# Altium integrated library Lattice ORCA Series 2.IntLib: 202 symbols (part 20 of 22)
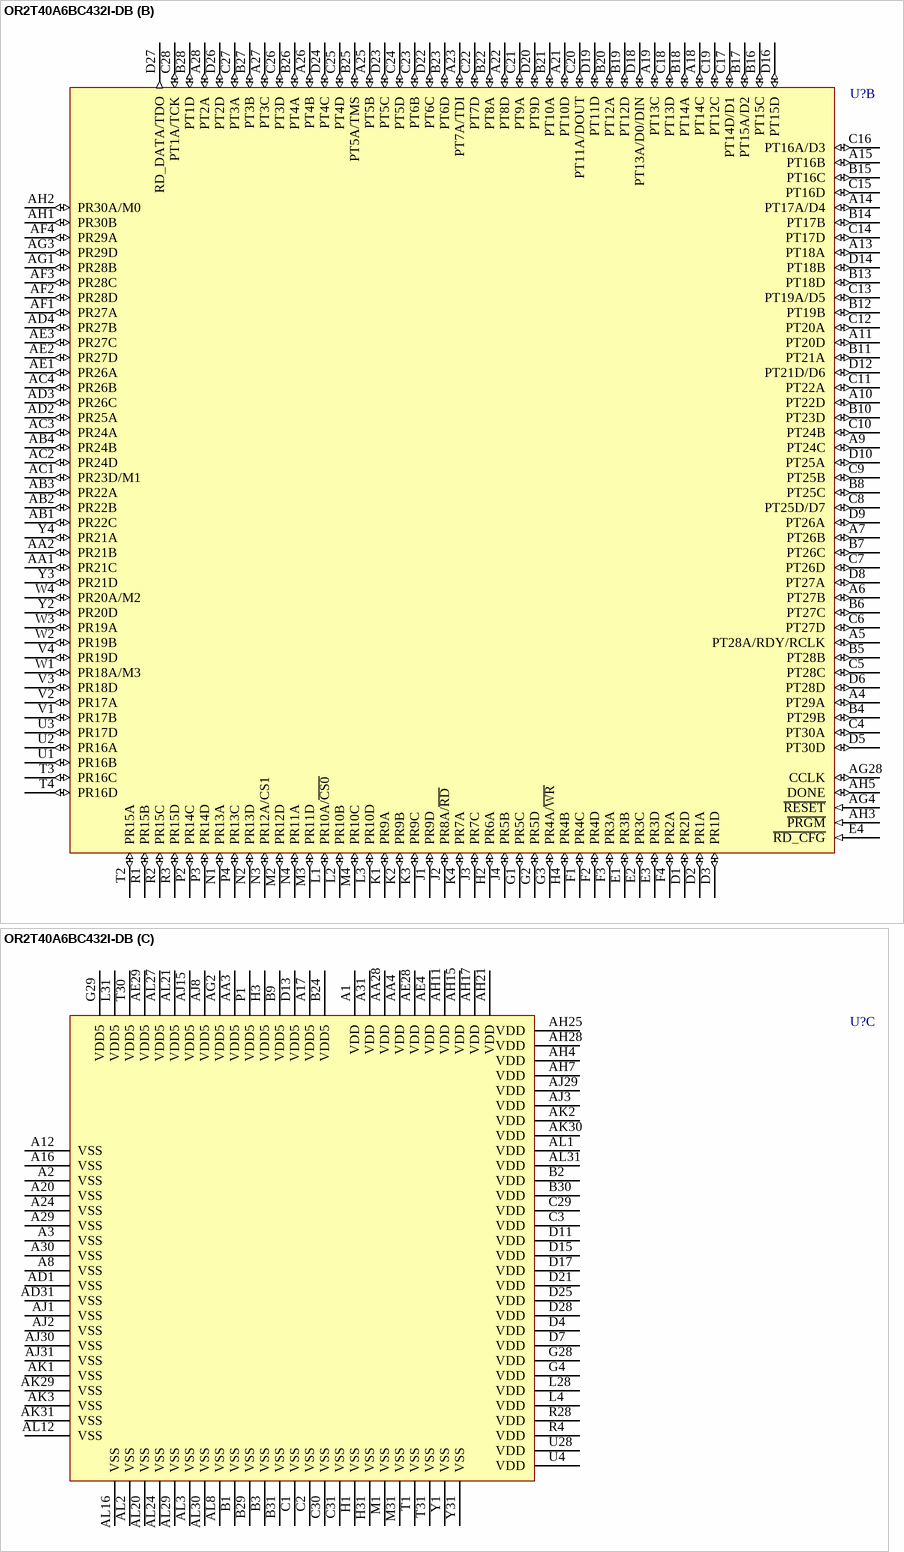
[diagram p211: symbol OR2T40A6BC432I-DB]

## OR2T40A6BC432I-DB
designator U?
ORCA Series 2C FPGA: 3.3 V, Industrial Grade, 480 User I/Os.; Published: 21-May-2003; LatestRevisionDate: 13-Apr-2006; LatestRevisionNote: IPC-7351 Footprint Added.; DatasheetVersion: Jan-2003; PackageVersion: pkg_32, Aug-2005; PackageReference: SBGA432; Publisher: Altium Limited; PackageDescription: 432-Ball Super Ball Grid Array (SBGA432); ComponentLink1Description: Manufacturer Link; ComponentLink1URL: http://www.latticesemi.com/products/fpga/orca/orca2/index.cfm; ComponentLink2Description: Datasheet; ComponentLink2URL: http://www.latticesemi.com/lit/docs/datasheets/fpga/ds99-094fpga.pdf; ComponentLink3Description: Lattice Login; ComponentLink3URL: http://www.latticesemi.com/account/login.cfm
footprint SBGA432 (BGA, 432-Leads, Body 40x40mm, Pitch 1.27mm)
3D model OR2T40A-SBGA432 (432-Ball Super Ball Grid Array (SBGA432))
part A pins: AA29 PL21A (io), AA30 PL21C (io), AA31 PL21D/A12 (io), AB28 PL23C (io), AB29 PL22B/A13 (io), AB30 PL22C (io), AB31 PL22D (io), AC28 PL26C (io), AC29 PL24D (io), AC30 PL23D (io), AC31 PL22A (io), AD28 PL27C (io), AD29 PL25A/A14 (io), AD30 PL25D (io), AE30 PL26A (io), AE31 PL26B (io), AF28 PL29A (io), AF29 PL28D (io), AF30 PL27A (io), AF31 PL27B (io), AG29 PL28A (io), AG30 PL28B (io), AG31 PL28C (io), AH6 PB29A (io), AH8 PB27B (io), AH9 PB26B (io), AH10 PB25B (io), AH12 PB22A (io), AH13 PB20B (io), AH14 PB19A/HDC (io), AH16 PB16A (io), AH18 PB13A (io), AH19 PB11D (io), AH20 PB10A (io), AH22 PB6D (io), AH23 PB5D/A17 (io), AH24 PB4D (io), AH26 PB3A (io), AH27 PB1A/A16 (io), AH29 PL30A/A15 (io), AH30 PL30B (io), AH31 PL30C (io), AJ4 PB30D (io), AJ5 PB28D (io), AJ6 PB28A (io), AJ7 PB27A (io), AJ9 PB25C (io), AJ10 PB24C (io), AJ11 PB22D (io), AJ12 PB20D (io), AJ13 PB19D (io), AJ14 PB18B (io), AJ16 PB15D (io), AJ17 PB15A (io), AJ18 PB14A (io), AJ19 PB12B (io), AJ20 PB11B (io), AJ21 PB9D (io), AJ22 PB8A (io), AJ23 PB6C (io), AJ24 PB6A (io), AJ25 PB5A (io), AJ26 PB4A (io), AJ27 PB3B (io), AJ28 PB1B (io), AK4 PB30C (io), AK5 PB28C (io), AK6 PB27D (io), AK7 PB26D (io), AK8 PB25D (io), AK9 PB25A/~{INIT} (io), AK10 PB24A (io), AK11 PB21D (io), AK12 PB20A (io), AK13 PB19B (io), AK14 PB18A (io), AK15 PB16D (io), AK16 PB16B (io), AK17 PB15B (io), AK18 PB14B (io), AK19 PB12D (io), AK20 PB12A (io), AK21 PB10D (io), AK22 PB8D (io), AK23 PB7A (io), AK24 PB6B (io), AK25 PB5B (io), AK26 PB4B (io), AK27 PB3C (io), AK28 PB2A (io), AL4 PB29D (io), AL5 PB28B (io), AL6 PB27C (io), AL7 PB26C (io), AL9 PB24D (io), AL10 PB23A (io), AL11 PB21A/~{LDC} (io), AL13 PB18D (io), AL14 PB17D (io), AL15 PB16C (io), AL17 PB15C (io), AL18 PB14D (io), AL19 PB13D (io), AL22 PB9A (io), AL23 PB7D (io), AL25 PB5C (io), AL26 PB4C (io), AL28 PB2D (io), D29 PL1A (io), D30 PL2D (io), D31 PL2A (io), E28 PL1D (io), E29 PL3C (io), E30 PL3B (io), E31 PL3A (io), F28 PL3D/A0 (io), F29 PL4D (io), F30 PL4C (io), F31 PL4B (io), G30 PL5C (io), G31 PL5B (io), H28 PL4A (io), H29 PL7D (io), H30 PL7C (io), J28 PL6D (io), J29 PL7B (io), J30 PL9D (io), J31 PL9C (io), K28 PL8D/A1 (io), K29 PL9B (io), K30 PL9A/A2 (io), K31 PL10D (io), L29 PL10C (io), L30 PL10A/A3 (io), M28 PL10B (io), M29 PL11C (io), M30 PL12D (io), N28 PL11A (io), N29 PL12C (io), N30 PL12A/A4 (io), N31 PL13C (io), P28 PL13D/A5 (io), P29 PL13A (io), P30 PL14D (io), P31 PL14A/A6 (io), R29 PL15D (io), R30 PL15C (io), R31 PL15B (io), T28 PL16D (io), T29 PL15A/A7 (io), U29 PL17D/A9 (io), U30 PL16A/A8 (io), U31 PL16B (io), V28 PL18A/A10 (io), V29 PL18D (io), V30 PL17A (io), V31 PL17C (io), W28 PL20D (io), W29 PL19C (io), W30 PL19D (io), W31 PL18C (io), Y28 PL21B (io), Y29 PL20A/A11 (io), Y30 PL19A (io)
part B pins: A4 PT29A (io), A5 PT28A/RDY/RCLK (io), A6 PT27B (io), A7 PT26B (io), A9 PT24C (io), A10 PT22D (io), A11 PT20D (io), A13 PT18A (io), A14 PT17A/D4 (io), A15 PT16B (io), A18 PT14C (io), A19 PT13C (io), A21 PT10D (io), A22 PT8D (io), A23 PT7A/TDI (io), A25 PT5B (io), A26 PT4B (io), A27 PT3C (io), A28 PT2A (io), AA1 PR21C (io), AA2 PR21B (io), AB1 PR22C (io), AB2 PR22B (io), AB3 PR22A (io), AB4 PR24B (io), AC1 PR23D/M1 (io), AC2 PR24D (io), AC3 PR24A (io), AC4 PR26B (io), AD2 PR25A (io), AD3 PR26C (io), AD4 PR27B (io), AE1 PR26A (io), AE2 PR27D (io), AE3 PR27C (io), AF1 PR27A (io), AF2 PR28D (io), AF3 PR28C (io), AF4 PR29A (io), AG1 PR28B (io), AG3 PR29D (io), AG4 ~{RESET} (in), AG28 CCLK (io), AH1 PR30B (io), AH2 PR30A/M0 (io), AH3 ~{PRGM} (in), AH5 DONE (io), B4 PT29B (io), B5 PT28B (io), B6 PT27C (io), B7 PT26C (io), B8 PT25C (io), B10 PT23D (io), B11 PT21A (io), B12 PT19B (io), B13 PT18D (io), B14 PT17B (io), B15 PT16C (io), B16 PT15C (io), B17 PT15A/D2 (io), B18 PT14A (io), B19 PT12D (io), B20 PT12A (io), B21 PT10A (io), B22 PT8A (io), B23 PT6D (io), B25 PT5A/TMS (io), B26 PT4A (io), B27 PT3B (io), B28 PT1D (io), C4 PT30A (io), C5 PT28C (io), C6 PT27D (io), C7 PT26D (io), C8 PT25D/D7 (io), C9 PT25B (io), C10 PT24B (io), C11 PT22A (io), C12 PT20A (io), C13 PT19A/D5 (io), C14 PT17D (io), C15 PT16D (io), C16 PT16A/D3 (io), C17 PT14D/D1 (io), C18 PT13D (io), C19 PT12C (io), C20 PT11A/DOUT (io), C21 PT9A (io), C22 PT7D (io), C23 PT6B (io), C24 PT5D (io), C25 PT4D (io), C26 PT3D (io), C27 PT3A (io), C28 PT1A/TCK (io), D1 PR2D (io), D2 PR1A (io), D3 PR1D (io), D5 PT30D (io), D6 PT28D (io), D8 PT27A (io), D9 PT26A (io), D10 PT25A (io), D12 PT21D/D6 (io), D14 PT18B (io), D16 PT15D (io), D18 PT13A/D0/DIN (io), D19 PT11D (io), D20 PT9D (io), D22 PT6C (io), D23 PT5C (io), D24 PT4C (io), D26 PT2D (io), D27 RD_DATA/TDO (out), E1 PR3B (io), E2 PR3C (io), E3 PR3D (io), E4 ~{RD_CFG} (in), F1 PR4C (io), F2 PR4D (io), F3 PR3A (io), F4 PR2A (io), G1 PR5C (io), G2 PR5D (io), G3 PR4A/~{WR} (io), H2 PR6A (io), H4 PR4B (io), J1 PR9D (io), J2 PR8A/~{RD} (io), J3 PR7C (io), J4 PR5B (io), K1 PR9A (io), K2 PR9B (io), K3 PR9C (io), K4 PR7A (io), L1 PR10A/~{CS0} (io), L2 PR10B (io), L3 PR10D (io), M2 PR12D (io), M3 PR11D (io), M4 PR10C (io), N1 PR13A (io), N2 PR13D (io), N3 PR12A/CS1 (io), N4 PR11A (io), P2 PR14C (io), P3 PR14D (io), P4 PR13C (io), R1 PR15B (io), R2 PR15C (io), R3 PR15D (io), T2 PR15A (io), T3 PR16C (io), T4 PR16D (io), U1 PR16B (io), U2 PR16A (io), U3 PR17D (io), V1 PR17B (io), V2 PR17A (io), V3 PR18D (io), V4 PR19D (io), W1 PR18A/M3 (io), W2 PR19B (io), W3 PR19A (io), W4 PR20A/M2 (io), Y2 PR20D (io), Y3 PR21D (io), Y4 PR21A (io)
part C pins: A1 VDD (power), A2 VSS (power), A3 VSS (power), A8 VSS (power), A12 VSS (power), A16 VSS (power), A17 VDD5 (power), A20 VSS (power), A24 VSS (power), A29 VSS (power), A30 VSS (power), A31 VDD (power), AA3 VDD5 (power), AA4 VDD (power), AA28 VDD (power), AD1 VSS (power), AD31 VSS (power), AE4 VDD (power), AE28 VDD (power), AE29 VDD5 (power), AG2 VDD5 (power), AH4 VDD (power), AH7 VDD (power), AH11 VDD (power), AH15 VDD (power), AH17 VDD (power), AH21 VDD (power), AH25 VDD (power), AH28 VDD (power), AJ1 VSS (power), AJ2 VSS (power), AJ3 VDD (power), AJ8 VDD5 (power), AJ15 VDD5 (power), AJ29 VDD (power), AJ30 VSS (power), AJ31 VSS (power), AK1 VSS (power), AK2 VDD (power), AK3 VSS (power), AK29 VSS (power), AK30 VDD (power), AK31 VSS (power), AL1 VDD (power), AL2 VSS (power), AL3 VSS (power), AL8 VSS (power), AL12 VSS (power), AL16 VSS (power), AL20 VSS (power), AL21 VDD5 (power), AL24 VSS (power), AL27 VDD5 (power), AL29 VSS (power), AL30 VSS (power), AL31 VDD (power), B1 VSS (power), B2 VDD (power), B3 VSS (power), B9 VDD5 (power), B24 VDD5 (power), B29 VSS (power), B30 VDD (power), B31 VSS (power), C1 VSS (power), C2 VSS (power), C3 VDD (power), C29 VDD (power), C30 VSS (power), C31 VSS (power), D4 VDD (power), D7 VDD (power), D11 VDD (power), D13 VDD5 (power), D15 VDD (power), D17 VDD (power), D21 VDD (power), D25 VDD (power), D28 VDD (power), G4 VDD (power), G28 VDD (power), G29 VDD5 (power), H1 VSS (power), H3 VDD5 (power), H31 VSS (power), L4 VDD (power), L28 VDD (power), L31 VDD5 (power), M1 VSS (power), M31 VSS (power), P1 VDD5 (power), R4 VDD (power), R28 VDD (power), T1 VSS (power), T30 VDD5 (power), T31 VSS (power), U4 VDD (power), U28 VDD (power), Y1 VSS (power), Y31 VSS (power)

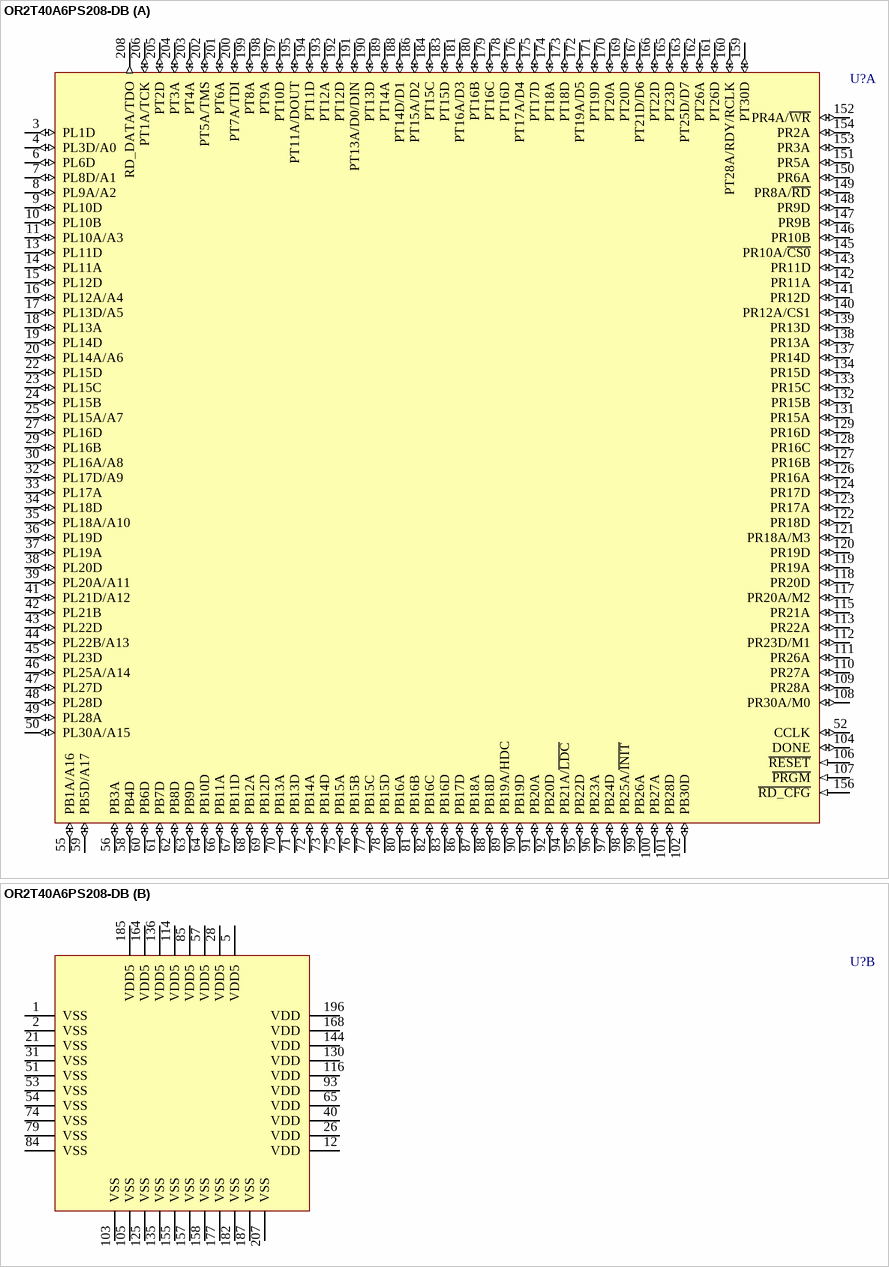
[diagram p165: symbol OR2T40A6PS208-DB]

## OR2T40A6PS208-DB
designator U?
ORCA Series 2C FPGA: 3.3 V, Commercial Grade, 480 User I/Os.; Published: 21-May-2003; LatestRevisionDate: 13-Apr-2006; LatestRevisionNote: IPC-7351 Footprint Added.; DatasheetVersion: Jan-2003; PackageVersion: pkg_32, Aug-2005; PackageReference: PQFP208; Publisher: Altium Limited; PackageDescription: 208-Pin Plastic Quad Flat Pack (PQFP208); Code_JEDEC: MO-143-FAI; ComponentLink1Description: Manufacturer Link; ComponentLink1URL: http://www.latticesemi.com/products/fpga/orca/orca2/index.cfm; ComponentLink2Description: Datasheet; ComponentLink2URL: http://www.latticesemi.com/lit/docs/datasheets/fpga/ds99-094fpga.pdf; ComponentLink3Description: Lattice Login; ComponentLink3URL: http://www.latticesemi.com/account/login.cfm
footprint PQFP208_N (Shrink QFP, 208-Leads, Body 28x28mm, Pitch 0.5mm, IPC Medium Density)
footprint PQFP208_L (Shrink QFP, 208-Leads, Body 28x28mm, Pitch 0.5mm, IPC High Density)
footprint PQFP208_M (Shrink QFP, 208-Leads, Body 28x28mm, Pitch 0.5mm, IPC Low Density)
3D model OR2T40A-PQFP208 (208-Pin Plastic Quad Flat Pack (PQFP208))
part A pins: 3 PL1D (io), 4 PL3D/A0 (io), 6 PL6D (io), 7 PL8D/A1 (io), 8 PL9A/A2 (io), 9 PL10D (io), 10 PL10B (io), 11 PL10A/A3 (io), 13 PL11D (io), 14 PL11A (io), 15 PL12D (io), 16 PL12A/A4 (io), 17 PL13D/A5 (io), 18 PL13A (io), 19 PL14D (io), 20 PL14A/A6 (io), 22 PL15D (io), 23 PL15C (io), 24 PL15B (io), 25 PL15A/A7 (io), 27 PL16D (io), 29 PL16B (io), 30 PL16A/A8 (io), 32 PL17D/A9 (io), 33 PL17A (io), 34 PL18D (io), 35 PL18A/A10 (io), 36 PL19D (io), 37 PL19A (io), 38 PL20D (io), 39 PL20A/A11 (io), 41 PL21D/A12 (io), 42 PL21B (io), 43 PL22D (io), 44 PL22B/A13 (io), 45 PL23D (io), 46 PL25A/A14 (io), 47 PL27D (io), 48 PL28D (io), 49 PL28A (io), 50 PL30A/A15 (io), 52 CCLK (io), 55 PB1A/A16 (io), 56 PB3A (io), 58 PB4D (io), 59 PB5D/A17 (io), 60 PB6D (io), 61 PB7D (io), 62 PB8D (io), 63 PB9D (io), 64 PB10D (io), 66 PB11A (io), 67 PB11D (io), 68 PB12A (io), 69 PB12D (io), 70 PB13A (io), 71 PB13D (io), 72 PB14A (io), 73 PB14D (io), 75 PB15A (io), 76 PB15B (io), 77 PB15C (io), 78 PB15D (io), 80 PB16A (io), 81 PB16B (io), 82 PB16C (io), 83 PB16D (io), 86 PB17D (io), 87 PB18A (io), 88 PB18D (io), 89 PB19A/HDC (io), 90 PB19D (io), 91 PB20A (io), 92 PB20D (io), 94 PB21A/~{LDC} (io), 95 PB22D (io), 96 PB23A (io), 97 PB24D (io), 98 PB25A/~{INIT} (io), 99 PB26A (io), 100 PB27A (io), 101 PB28D (io), 102 PB30D (io), 104 DONE (io), 106 ~{RESET} (in), 107 ~{PRGM} (in), 108 PR30A/M0 (io), 109 PR28A (io), 110 PR27A (io), 111 PR26A (io), 112 PR23D/M1 (io), 113 PR22A (io), 115 PR21A (io), 117 PR20A/M2 (io), 118 PR20D (io), 119 PR19A (io), 120 PR19D (io), 121 PR18A/M3 (io), 122 PR18D (io), 123 PR17A (io), 124 PR17D (io), 126 PR16A (io), 127 PR16B (io), 128 PR16C (io), 129 PR16D (io), 131 PR15A (io), 132 PR15B (io), 133 PR15C (io), 134 PR15D (io), 137 PR14D (io), 138 PR13A (io), 139 PR13D (io), 140 PR12A/CS1 (io), 141 PR12D (io), 142 PR11A (io), 143 PR11D (io), 145 PR10A/~{CS0} (io), 146 PR10B (io), 147 PR9B (io), 148 PR9D (io), 149 PR8A/~{RD} (io), 150 PR6A (io), 151 PR5A (io), 152 PR4A/~{WR} (io), 153 PR3A (io), 154 PR2A (io), 156 ~{RD_CFG} (in), 159 PT30D (io), 160 PT28A/RDY/RCLK (io), 161 PT26D (io), 162 PT26A (io), 163 PT25D/D7 (io), 165 PT23D (io), 166 PT22D (io), 167 PT21D/D6 (io), 169 PT20D (io), 170 PT20A (io), 171 PT19D (io), 172 PT19A/D5 (io), 173 PT18D (io), 174 PT18A (io), 175 PT17D (io), 176 PT17A/D4 (io), 178 PT16D (io), 179 PT16C (io), 180 PT16B (io), 181 PT16A/D3 (io), 183 PT15D (io), 184 PT15C (io), 186 PT15A/D2 (io), 188 PT14D/D1 (io), 189 PT14A (io), 190 PT13D (io), 191 PT13A/D0/DIN (io), 192 PT12D (io), 193 PT12A (io), 194 PT11D (io), 195 PT11A/DOUT (io), 197 PT10D (io), 198 PT9A (io), 199 PT8A (io), 200 PT7A/TDI (io), 201 PT6A (io), 202 PT5A/TMS (io), 203 PT4A (io), 204 PT3A (io), 205 PT2D (io), 206 PT1A/TCK (io), 208 RD_DATA/TDO (out)
part B pins: 1 VSS (power), 2 VSS (power), 5 VDD5 (power), 12 VDD (power), 21 VSS (power), 26 VDD (power), 28 VDD5 (power), 31 VSS (power), 40 VDD (power), 51 VSS (power), 53 VSS (power), 54 VSS (power), 57 VDD5 (power), 65 VDD (power), 74 VSS (power), 79 VSS (power), 84 VSS (power), 85 VDD5 (power), 93 VDD (power), 103 VSS (power), 105 VSS (power), 114 VDD5 (power), 116 VDD (power), 125 VSS (power), 130 VDD (power), 135 VSS (power), 136 VDD5 (power), 144 VDD (power), 155 VSS (power), 157 VSS (power), 158 VSS (power), 164 VDD5 (power), 168 VDD (power), 177 VSS (power), 182 VSS (power), 185 VDD5 (power), 187 VSS (power), 196 VDD (power), 207 VSS (power)

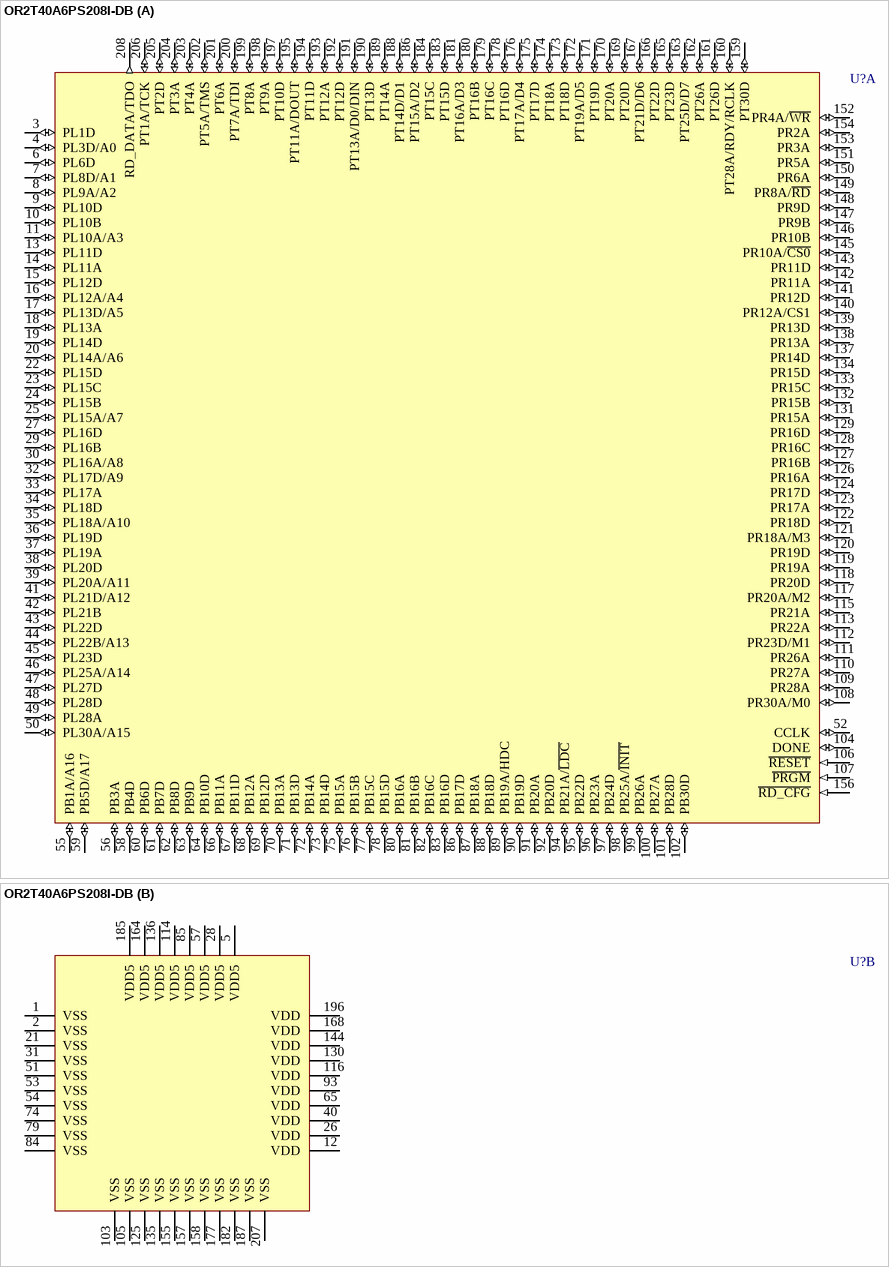
[diagram p166: symbol OR2T40A6PS208I-DB]

## OR2T40A6PS208I-DB
designator U?
ORCA Series 2C FPGA: 3.3 V, Industrial Grade, 480 User I/Os.; Published: 21-May-2003; LatestRevisionDate: 13-Apr-2006; LatestRevisionNote: IPC-7351 Footprint Added.; DatasheetVersion: Jan-2003; PackageVersion: pkg_32, Aug-2005; PackageReference: PQFP208; Publisher: Altium Limited; PackageDescription: 208-Pin Plastic Quad Flat Pack (PQFP208); Code_JEDEC: MO-143-FAI; ComponentLink1Description: Manufacturer Link; ComponentLink1URL: http://www.latticesemi.com/products/fpga/orca/orca2/index.cfm; ComponentLink2Description: Datasheet; ComponentLink2URL: http://www.latticesemi.com/lit/docs/datasheets/fpga/ds99-094fpga.pdf; ComponentLink3Description: Lattice Login; ComponentLink3URL: http://www.latticesemi.com/account/login.cfm
footprint PQFP208_N (Shrink QFP, 208-Leads, Body 28x28mm, Pitch 0.5mm, IPC Medium Density)
footprint PQFP208_L (Shrink QFP, 208-Leads, Body 28x28mm, Pitch 0.5mm, IPC High Density)
footprint PQFP208_M (Shrink QFP, 208-Leads, Body 28x28mm, Pitch 0.5mm, IPC Low Density)
3D model OR2T40A-PQFP208 (208-Pin Plastic Quad Flat Pack (PQFP208))
part A pins: 3 PL1D (io), 4 PL3D/A0 (io), 6 PL6D (io), 7 PL8D/A1 (io), 8 PL9A/A2 (io), 9 PL10D (io), 10 PL10B (io), 11 PL10A/A3 (io), 13 PL11D (io), 14 PL11A (io), 15 PL12D (io), 16 PL12A/A4 (io), 17 PL13D/A5 (io), 18 PL13A (io), 19 PL14D (io), 20 PL14A/A6 (io), 22 PL15D (io), 23 PL15C (io), 24 PL15B (io), 25 PL15A/A7 (io), 27 PL16D (io), 29 PL16B (io), 30 PL16A/A8 (io), 32 PL17D/A9 (io), 33 PL17A (io), 34 PL18D (io), 35 PL18A/A10 (io), 36 PL19D (io), 37 PL19A (io), 38 PL20D (io), 39 PL20A/A11 (io), 41 PL21D/A12 (io), 42 PL21B (io), 43 PL22D (io), 44 PL22B/A13 (io), 45 PL23D (io), 46 PL25A/A14 (io), 47 PL27D (io), 48 PL28D (io), 49 PL28A (io), 50 PL30A/A15 (io), 52 CCLK (io), 55 PB1A/A16 (io), 56 PB3A (io), 58 PB4D (io), 59 PB5D/A17 (io), 60 PB6D (io), 61 PB7D (io), 62 PB8D (io), 63 PB9D (io), 64 PB10D (io), 66 PB11A (io), 67 PB11D (io), 68 PB12A (io), 69 PB12D (io), 70 PB13A (io), 71 PB13D (io), 72 PB14A (io), 73 PB14D (io), 75 PB15A (io), 76 PB15B (io), 77 PB15C (io), 78 PB15D (io), 80 PB16A (io), 81 PB16B (io), 82 PB16C (io), 83 PB16D (io), 86 PB17D (io), 87 PB18A (io), 88 PB18D (io), 89 PB19A/HDC (io), 90 PB19D (io), 91 PB20A (io), 92 PB20D (io), 94 PB21A/~{LDC} (io), 95 PB22D (io), 96 PB23A (io), 97 PB24D (io), 98 PB25A/~{INIT} (io), 99 PB26A (io), 100 PB27A (io), 101 PB28D (io), 102 PB30D (io), 104 DONE (io), 106 ~{RESET} (in), 107 ~{PRGM} (in), 108 PR30A/M0 (io), 109 PR28A (io), 110 PR27A (io), 111 PR26A (io), 112 PR23D/M1 (io), 113 PR22A (io), 115 PR21A (io), 117 PR20A/M2 (io), 118 PR20D (io), 119 PR19A (io), 120 PR19D (io), 121 PR18A/M3 (io), 122 PR18D (io), 123 PR17A (io), 124 PR17D (io), 126 PR16A (io), 127 PR16B (io), 128 PR16C (io), 129 PR16D (io), 131 PR15A (io), 132 PR15B (io), 133 PR15C (io), 134 PR15D (io), 137 PR14D (io), 138 PR13A (io), 139 PR13D (io), 140 PR12A/CS1 (io), 141 PR12D (io), 142 PR11A (io), 143 PR11D (io), 145 PR10A/~{CS0} (io), 146 PR10B (io), 147 PR9B (io), 148 PR9D (io), 149 PR8A/~{RD} (io), 150 PR6A (io), 151 PR5A (io), 152 PR4A/~{WR} (io), 153 PR3A (io), 154 PR2A (io), 156 ~{RD_CFG} (in), 159 PT30D (io), 160 PT28A/RDY/RCLK (io), 161 PT26D (io), 162 PT26A (io), 163 PT25D/D7 (io), 165 PT23D (io), 166 PT22D (io), 167 PT21D/D6 (io), 169 PT20D (io), 170 PT20A (io), 171 PT19D (io), 172 PT19A/D5 (io), 173 PT18D (io), 174 PT18A (io), 175 PT17D (io), 176 PT17A/D4 (io), 178 PT16D (io), 179 PT16C (io), 180 PT16B (io), 181 PT16A/D3 (io), 183 PT15D (io), 184 PT15C (io), 186 PT15A/D2 (io), 188 PT14D/D1 (io), 189 PT14A (io), 190 PT13D (io), 191 PT13A/D0/DIN (io), 192 PT12D (io), 193 PT12A (io), 194 PT11D (io), 195 PT11A/DOUT (io), 197 PT10D (io), 198 PT9A (io), 199 PT8A (io), 200 PT7A/TDI (io), 201 PT6A (io), 202 PT5A/TMS (io), 203 PT4A (io), 204 PT3A (io), 205 PT2D (io), 206 PT1A/TCK (io), 208 RD_DATA/TDO (out)
part B pins: 1 VSS (power), 2 VSS (power), 5 VDD5 (power), 12 VDD (power), 21 VSS (power), 26 VDD (power), 28 VDD5 (power), 31 VSS (power), 40 VDD (power), 51 VSS (power), 53 VSS (power), 54 VSS (power), 57 VDD5 (power), 65 VDD (power), 74 VSS (power), 79 VSS (power), 84 VSS (power), 85 VDD5 (power), 93 VDD (power), 103 VSS (power), 105 VSS (power), 114 VDD5 (power), 116 VDD (power), 125 VSS (power), 130 VDD (power), 135 VSS (power), 136 VDD5 (power), 144 VDD (power), 155 VSS (power), 157 VSS (power), 158 VSS (power), 164 VDD5 (power), 168 VDD (power), 177 VSS (power), 182 VSS (power), 185 VDD5 (power), 187 VSS (power), 196 VDD (power), 207 VSS (power)

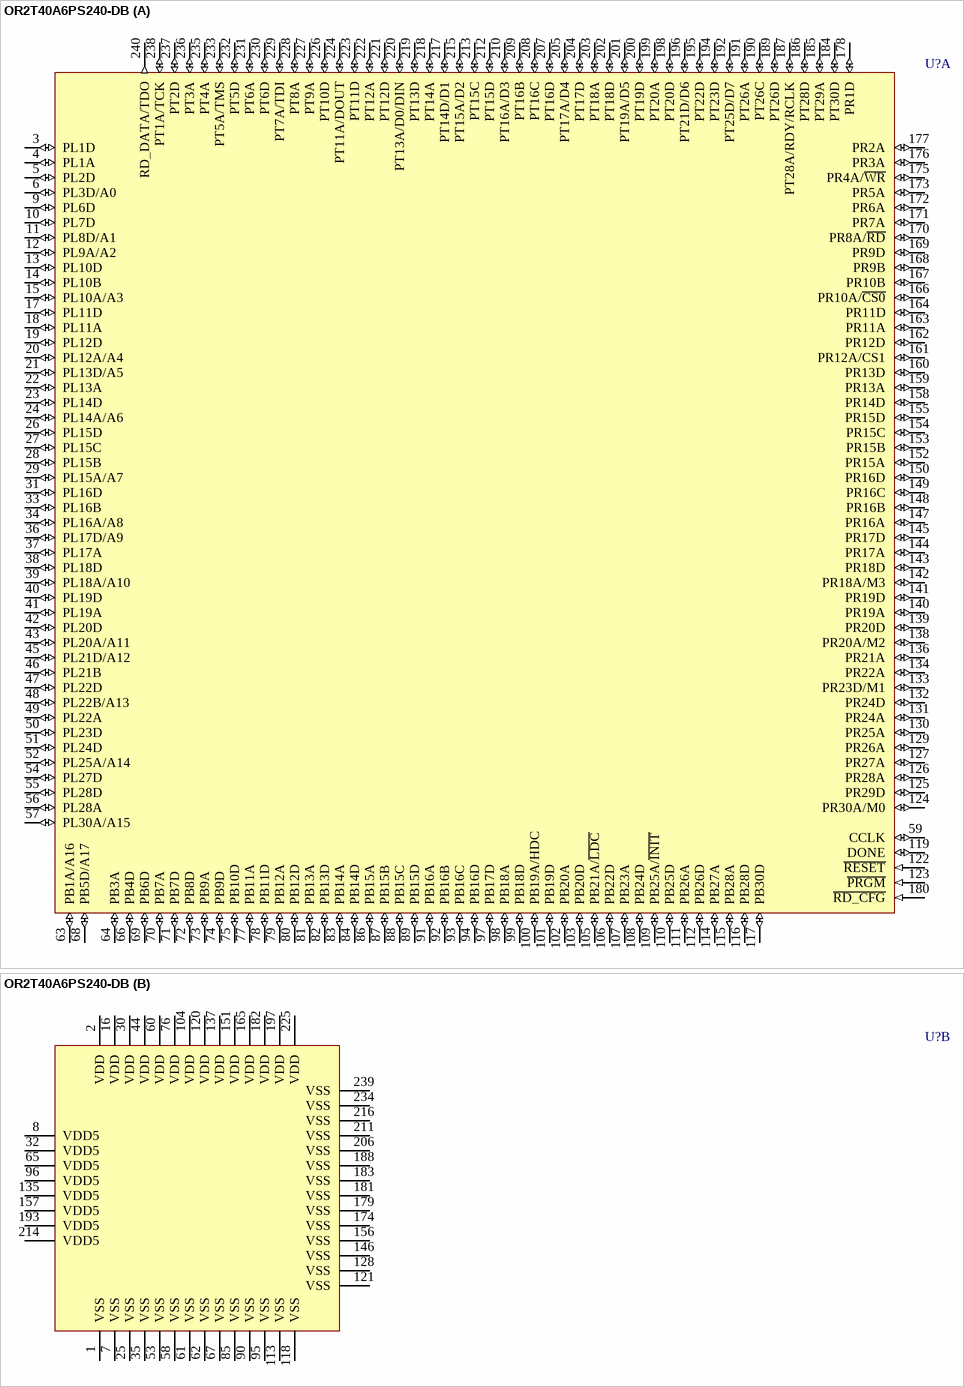
[diagram p167: symbol OR2T40A6PS240-DB]

## OR2T40A6PS240-DB
designator U?
ORCA Series 2C FPGA: 3.3 V, Commercial Grade, 480 User I/Os.; Published: 21-May-2003; LatestRevisionDate: 13-Apr-2006; LatestRevisionNote: IPC-7351 Footprint Added.; DatasheetVersion: Jan-2003; PackageVersion: pkg_32, Aug-2005; PackageReference: PQFP240; Publisher: Altium Limited; PackageDescription: 240-Pin Shrink Quad Flat Pack 0.5 mm Pitch; ComponentLink1Description: Manufacturer Link; ComponentLink1URL: http://www.latticesemi.com/products/fpga/orca/orca2/index.cfm; ComponentLink2Description: Datasheet; ComponentLink2URL: http://www.latticesemi.com/lit/docs/datasheets/fpga/ds99-094fpga.pdf; ComponentLink3Description: Lattice Login; ComponentLink3URL: http://www.latticesemi.com/account/login.cfm
footprint PQFP240_N (Shrink QFP, 240-Leads, Body 32x32mm, Pitch 0.5mm, IPC Medium Density)
footprint PQFP240_L (Shrink QFP, 240-Leads, Body 32x32mm, Pitch 0.5mm, IPC High Density)
footprint PQFP240_M (Shrink QFP, 240-Leads, Body 32x32mm, Pitch 0.5mm, IPC Low Density)
3D model OR2T40A-PQFP240 (240-Pin Shrink Quad Flat Pack 0.5 mm Pitch)
part A pins: 3 PL1D (io), 4 PL1A (io), 5 PL2D (io), 6 PL3D/A0 (io), 9 PL6D (io), 10 PL7D (io), 11 PL8D/A1 (io), 12 PL9A/A2 (io), 13 PL10D (io), 14 PL10B (io), 15 PL10A/A3 (io), 17 PL11D (io), 18 PL11A (io), 19 PL12D (io), 20 PL12A/A4 (io), 21 PL13D/A5 (io), 22 PL13A (io), 23 PL14D (io), 24 PL14A/A6 (io), 26 PL15D (io), 27 PL15C (io), 28 PL15B (io), 29 PL15A/A7 (io), 31 PL16D (io), 33 PL16B (io), 34 PL16A/A8 (io), 36 PL17D/A9 (io), 37 PL17A (io), 38 PL18D (io), 39 PL18A/A10 (io), 40 PL19D (io), 41 PL19A (io), 42 PL20D (io), 43 PL20A/A11 (io), 45 PL21D/A12 (io), 46 PL21B (io), 47 PL22D (io), 48 PL22B/A13 (io), 49 PL22A (io), 50 PL23D (io), 51 PL24D (io), 52 PL25A/A14 (io), 54 PL27D (io), 55 PL28D (io), 56 PL28A (io), 57 PL30A/A15 (io), 59 CCLK (io), 63 PB1A/A16 (io), 64 PB3A (io), 66 PB4D (io), 68 PB5D/A17 (io), 69 PB6D (io), 70 PB7A (io), 71 PB7D (io), 72 PB8D (io), 73 PB9A (io), 74 PB9D (io), 75 PB10D (io), 77 PB11A (io), 78 PB11D (io), 79 PB12A (io), 80 PB12D (io), 81 PB13A (io), 82 PB13D (io), 83 PB14A (io), 84 PB14D (io), 86 PB15A (io), 87 PB15B (io), 88 PB15C (io), 89 PB15D (io), 91 PB16A (io), 92 PB16B (io), 93 PB16C (io), 94 PB16D (io), 97 PB17D (io), 98 PB18A (io), 99 PB18D (io), 100 PB19A/HDC (io), 101 PB19D (io), 102 PB20A (io), 103 PB20D (io), 105 PB21A/~{LDC} (io), 106 PB22D (io), 107 PB23A (io), 108 PB24D (io), 109 PB25A/~{INIT} (io), 110 PB25D (io), 111 PB26A (io), 112 PB26D (io), 114 PB27A (io), 115 PB28A (io), 116 PB28D (io), 117 PB30D (io), 119 DONE (io), 122 ~{RESET} (in), 123 ~{PRGM} (in), 124 PR30A/M0 (io), 125 PR29D (io), 126 PR28A (io), 127 PR27A (io), 129 PR26A (io), 130 PR25A (io), 131 PR24A (io), 132 PR24D (io), 133 PR23D/M1 (io), 134 PR22A (io), 136 PR21A (io), 138 PR20A/M2 (io), 139 PR20D (io), 140 PR19A (io), 141 PR19D (io), 142 PR18A/M3 (io), 143 PR18D (io), 144 PR17A (io), 145 PR17D (io), 147 PR16A (io), 148 PR16B (io), 149 PR16C (io), 150 PR16D (io), 152 PR15A (io), 153 PR15B (io), 154 PR15C (io), 155 PR15D (io), 158 PR14D (io), 159 PR13A (io), 160 PR13D (io), 161 PR12A/CS1 (io), 162 PR12D (io), 163 PR11A (io), 164 PR11D (io), 166 PR10A/~{CS0} (io), 167 PR10B (io), 168 PR9B (io), 169 PR9D (io), 170 PR8A/~{RD} (io), 171 PR7A (io), 172 PR6A (io), 173 PR5A (io), 175 PR4A/~{WR} (io), 176 PR3A (io), 177 PR2A (io), 178 PR1D (io), 180 ~{RD_CFG} (in), 184 PT30D (io), 185 PT29A (io), 186 PT28D (io), 187 PT28A/RDY/RCLK (io), 189 PT26D (io), 190 PT26C (io), 191 PT26A (io), 192 PT25D/D7 (io), 194 PT23D (io), 195 PT22D (io), 196 PT21D/D6 (io), 198 PT20D (io), 199 PT20A (io), 200 PT19D (io), 201 PT19A/D5 (io), 202 PT18D (io), 203 PT18A (io), 204 PT17D (io), 205 PT17A/D4 (io), 207 PT16D (io), 208 PT16C (io), 209 PT16B (io), 210 PT16A/D3 (io), 212 PT15D (io), 213 PT15C (io), 215 PT15A/D2 (io), 217 PT14D/D1 (io), 218 PT14A (io), 219 PT13D (io), 220 PT13A/D0/DIN (io), 221 PT12D (io), 222 PT12A (io), 223 PT11D (io), 224 PT11A/DOUT (io), 226 PT10D (io), 227 PT9A (io), 228 PT8A (io), 229 PT7A/TDI (io), 230 PT6D (io), 231 PT6A (io), 232 PT5D (io), 233 PT5A/TMS (io), 235 PT4A (io), 236 PT3A (io), 237 PT2D (io), 238 PT1A/TCK (io), 240 RD_DATA/TDO (out)
part B pins: 1 VSS (power), 2 VDD (power), 7 VSS (power), 8 VDD5 (power), 16 VDD (power), 25 VSS (power), 30 VDD (power), 32 VDD5 (power), 35 VSS (power), 44 VDD (power), 53 VSS (power), 58 VSS (power), 60 VDD (power), 61 VSS (power), 62 VSS (power), 65 VDD5 (power), 67 VSS (power), 76 VDD (power), 85 VSS (power), 90 VSS (power), 95 VSS (power), 96 VDD5 (power), 104 VDD (power), 113 VSS (power), 118 VSS (power), 120 VDD (power), 121 VSS (power), 128 VSS (power), 135 VDD5 (power), 137 VDD (power), 146 VSS (power), 151 VDD (power), 156 VSS (power), 157 VDD5 (power), 165 VDD (power), 174 VSS (power), 179 VSS (power), 181 VSS (power), 182 VDD (power), 183 VSS (power), 188 VSS (power), 193 VDD5 (power), 197 VDD (power), 206 VSS (power), 211 VSS (power), 214 VDD5 (power), 216 VSS (power), 225 VDD (power), 234 VSS (power), 239 VSS (power)

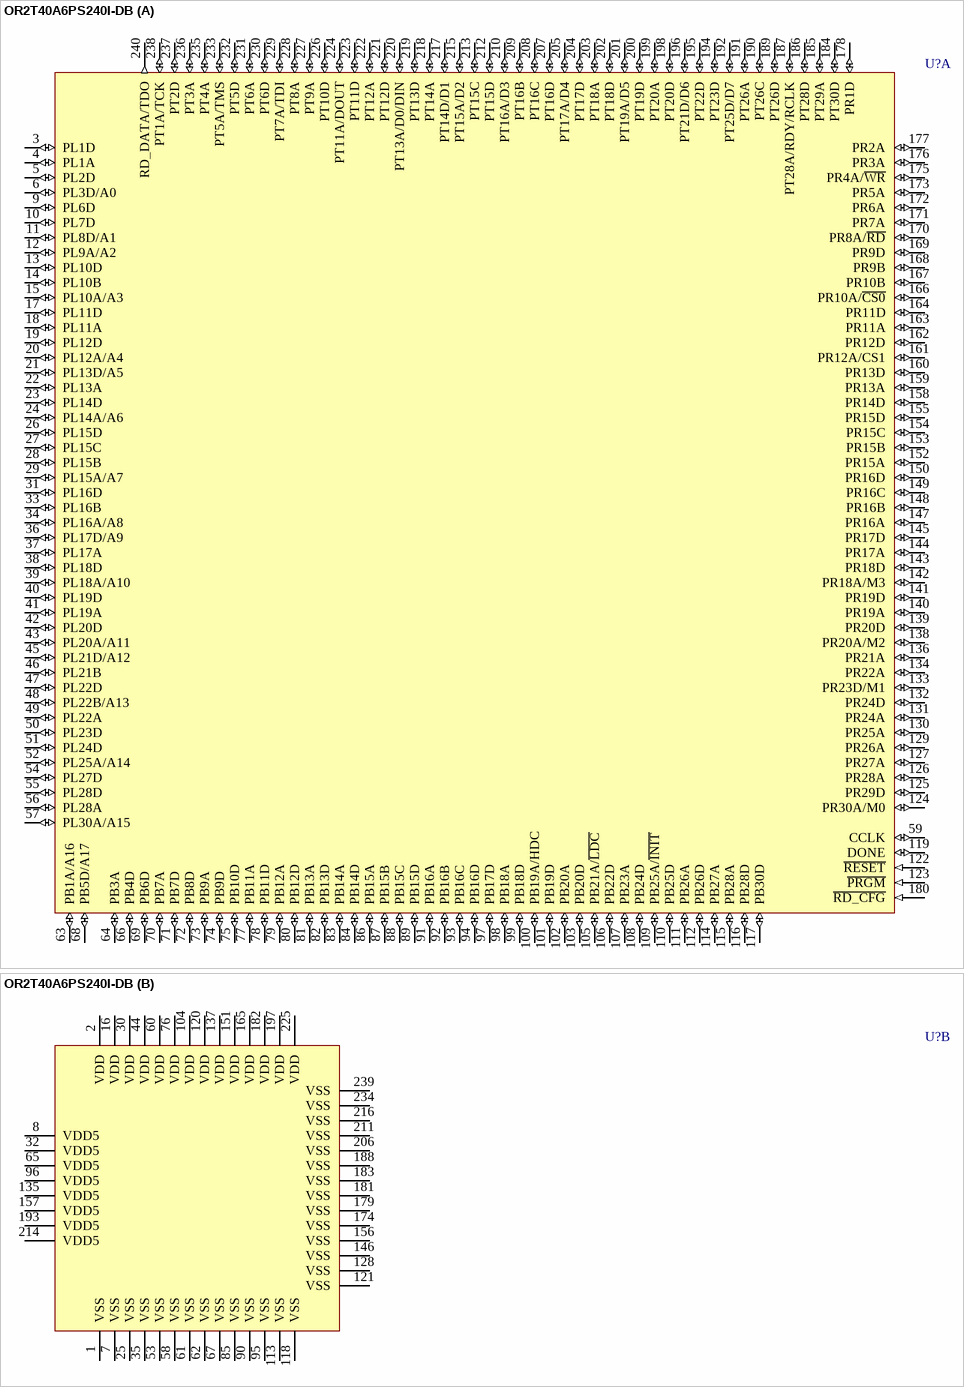
[diagram p168: symbol OR2T40A6PS240I-DB]

## OR2T40A6PS240I-DB
designator U?
ORCA Series 2C FPGA: 3.3 V, Industrial Grade, 480 User I/Os.; Published: 21-May-2003; LatestRevisionDate: 13-Apr-2006; LatestRevisionNote: IPC-7351 Footprint Added.; DatasheetVersion: Jan-2003; PackageVersion: pkg_32, Aug-2005; PackageReference: PQFP240; Publisher: Altium Limited; PackageDescription: 240-Pin Shrink Quad Flat Pack 0.5 mm Pitch; ComponentLink1Description: Manufacturer Link; ComponentLink1URL: http://www.latticesemi.com/products/fpga/orca/orca2/index.cfm; ComponentLink2Description: Datasheet; ComponentLink2URL: http://www.latticesemi.com/lit/docs/datasheets/fpga/ds99-094fpga.pdf; ComponentLink3Description: Lattice Login; ComponentLink3URL: http://www.latticesemi.com/account/login.cfm
footprint PQFP240_N (Shrink QFP, 240-Leads, Body 32x32mm, Pitch 0.5mm, IPC Medium Density)
footprint PQFP240_L (Shrink QFP, 240-Leads, Body 32x32mm, Pitch 0.5mm, IPC High Density)
footprint PQFP240_M (Shrink QFP, 240-Leads, Body 32x32mm, Pitch 0.5mm, IPC Low Density)
3D model OR2T40A-PQFP240 (240-Pin Shrink Quad Flat Pack 0.5 mm Pitch)
part A pins: 3 PL1D (io), 4 PL1A (io), 5 PL2D (io), 6 PL3D/A0 (io), 9 PL6D (io), 10 PL7D (io), 11 PL8D/A1 (io), 12 PL9A/A2 (io), 13 PL10D (io), 14 PL10B (io), 15 PL10A/A3 (io), 17 PL11D (io), 18 PL11A (io), 19 PL12D (io), 20 PL12A/A4 (io), 21 PL13D/A5 (io), 22 PL13A (io), 23 PL14D (io), 24 PL14A/A6 (io), 26 PL15D (io), 27 PL15C (io), 28 PL15B (io), 29 PL15A/A7 (io), 31 PL16D (io), 33 PL16B (io), 34 PL16A/A8 (io), 36 PL17D/A9 (io), 37 PL17A (io), 38 PL18D (io), 39 PL18A/A10 (io), 40 PL19D (io), 41 PL19A (io), 42 PL20D (io), 43 PL20A/A11 (io), 45 PL21D/A12 (io), 46 PL21B (io), 47 PL22D (io), 48 PL22B/A13 (io), 49 PL22A (io), 50 PL23D (io), 51 PL24D (io), 52 PL25A/A14 (io), 54 PL27D (io), 55 PL28D (io), 56 PL28A (io), 57 PL30A/A15 (io), 59 CCLK (io), 63 PB1A/A16 (io), 64 PB3A (io), 66 PB4D (io), 68 PB5D/A17 (io), 69 PB6D (io), 70 PB7A (io), 71 PB7D (io), 72 PB8D (io), 73 PB9A (io), 74 PB9D (io), 75 PB10D (io), 77 PB11A (io), 78 PB11D (io), 79 PB12A (io), 80 PB12D (io), 81 PB13A (io), 82 PB13D (io), 83 PB14A (io), 84 PB14D (io), 86 PB15A (io), 87 PB15B (io), 88 PB15C (io), 89 PB15D (io), 91 PB16A (io), 92 PB16B (io), 93 PB16C (io), 94 PB16D (io), 97 PB17D (io), 98 PB18A (io), 99 PB18D (io), 100 PB19A/HDC (io), 101 PB19D (io), 102 PB20A (io), 103 PB20D (io), 105 PB21A/~{LDC} (io), 106 PB22D (io), 107 PB23A (io), 108 PB24D (io), 109 PB25A/~{INIT} (io), 110 PB25D (io), 111 PB26A (io), 112 PB26D (io), 114 PB27A (io), 115 PB28A (io), 116 PB28D (io), 117 PB30D (io), 119 DONE (io), 122 ~{RESET} (in), 123 ~{PRGM} (in), 124 PR30A/M0 (io), 125 PR29D (io), 126 PR28A (io), 127 PR27A (io), 129 PR26A (io), 130 PR25A (io), 131 PR24A (io), 132 PR24D (io), 133 PR23D/M1 (io), 134 PR22A (io), 136 PR21A (io), 138 PR20A/M2 (io), 139 PR20D (io), 140 PR19A (io), 141 PR19D (io), 142 PR18A/M3 (io), 143 PR18D (io), 144 PR17A (io), 145 PR17D (io), 147 PR16A (io), 148 PR16B (io), 149 PR16C (io), 150 PR16D (io), 152 PR15A (io), 153 PR15B (io), 154 PR15C (io), 155 PR15D (io), 158 PR14D (io), 159 PR13A (io), 160 PR13D (io), 161 PR12A/CS1 (io), 162 PR12D (io), 163 PR11A (io), 164 PR11D (io), 166 PR10A/~{CS0} (io), 167 PR10B (io), 168 PR9B (io), 169 PR9D (io), 170 PR8A/~{RD} (io), 171 PR7A (io), 172 PR6A (io), 173 PR5A (io), 175 PR4A/~{WR} (io), 176 PR3A (io), 177 PR2A (io), 178 PR1D (io), 180 ~{RD_CFG} (in), 184 PT30D (io), 185 PT29A (io), 186 PT28D (io), 187 PT28A/RDY/RCLK (io), 189 PT26D (io), 190 PT26C (io), 191 PT26A (io), 192 PT25D/D7 (io), 194 PT23D (io), 195 PT22D (io), 196 PT21D/D6 (io), 198 PT20D (io), 199 PT20A (io), 200 PT19D (io), 201 PT19A/D5 (io), 202 PT18D (io), 203 PT18A (io), 204 PT17D (io), 205 PT17A/D4 (io), 207 PT16D (io), 208 PT16C (io), 209 PT16B (io), 210 PT16A/D3 (io), 212 PT15D (io), 213 PT15C (io), 215 PT15A/D2 (io), 217 PT14D/D1 (io), 218 PT14A (io), 219 PT13D (io), 220 PT13A/D0/DIN (io), 221 PT12D (io), 222 PT12A (io), 223 PT11D (io), 224 PT11A/DOUT (io), 226 PT10D (io), 227 PT9A (io), 228 PT8A (io), 229 PT7A/TDI (io), 230 PT6D (io), 231 PT6A (io), 232 PT5D (io), 233 PT5A/TMS (io), 235 PT4A (io), 236 PT3A (io), 237 PT2D (io), 238 PT1A/TCK (io), 240 RD_DATA/TDO (out)
part B pins: 1 VSS (power), 2 VDD (power), 7 VSS (power), 8 VDD5 (power), 16 VDD (power), 25 VSS (power), 30 VDD (power), 32 VDD5 (power), 35 VSS (power), 44 VDD (power), 53 VSS (power), 58 VSS (power), 60 VDD (power), 61 VSS (power), 62 VSS (power), 65 VDD5 (power), 67 VSS (power), 76 VDD (power), 85 VSS (power), 90 VSS (power), 95 VSS (power), 96 VDD5 (power), 104 VDD (power), 113 VSS (power), 118 VSS (power), 120 VDD (power), 121 VSS (power), 128 VSS (power), 135 VDD5 (power), 137 VDD (power), 146 VSS (power), 151 VDD (power), 156 VSS (power), 157 VDD5 (power), 165 VDD (power), 174 VSS (power), 179 VSS (power), 181 VSS (power), 182 VDD (power), 183 VSS (power), 188 VSS (power), 193 VDD5 (power), 197 VDD (power), 206 VSS (power), 211 VSS (power), 214 VDD5 (power), 216 VSS (power), 225 VDD (power), 234 VSS (power), 239 VSS (power)

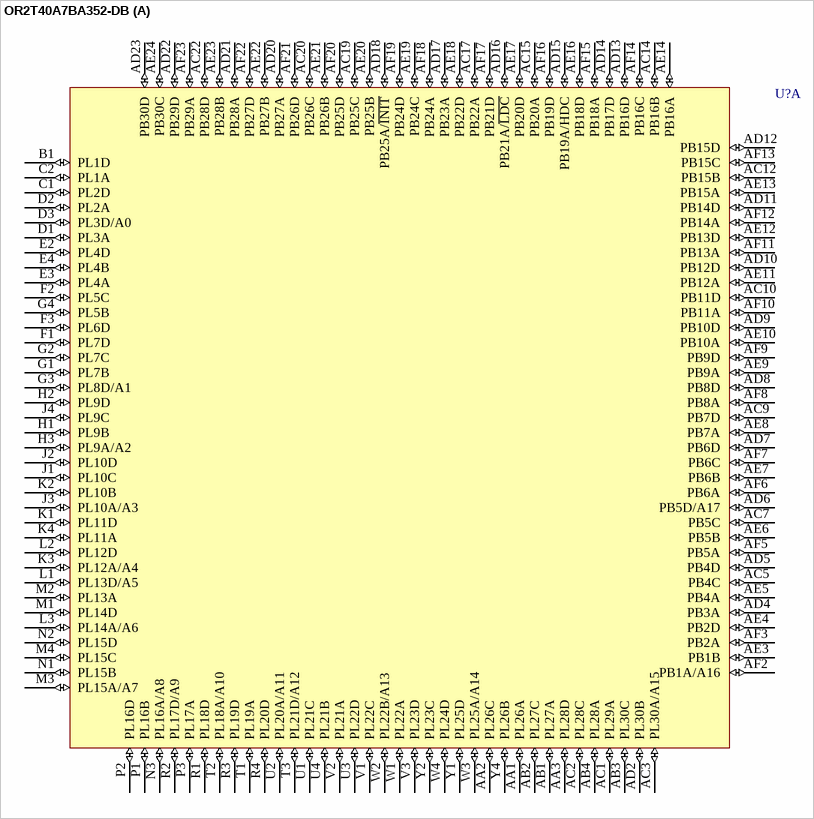
[diagram p169: symbol OR2T40A7BA352-DB]

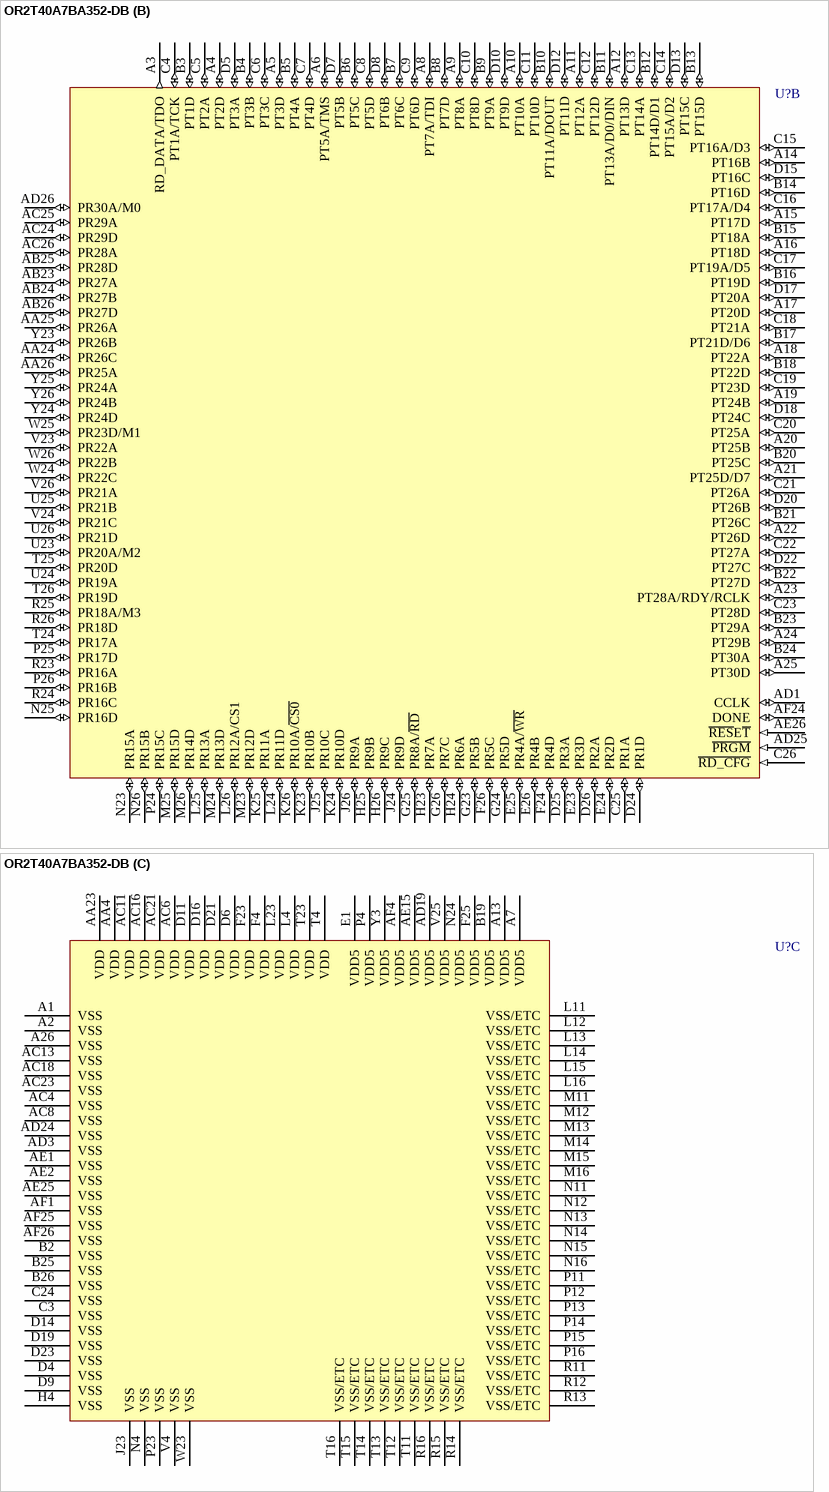
[diagram p170: symbol OR2T40A7BA352-DB]

## OR2T40A7BA352-DB
designator U?
ORCA Series 2C FPGA: 3.3 V, Commercial Grade, 480 User I/Os.; PinConnectionRecommendation: Ground array of 'VSS-ETC' pins for enhanced thermal capability or leave unconnected.; Published: 21-May-2003; LatestRevisionDate: 13-Apr-2006; LatestRevisionNote: IPC-7351 Footprint Added.; DatasheetVersion: Jan-2003; PackageVersion: pkg_32, Aug-2005; PackageReference: BGA388; Publisher: Altium Limited; PackageDescription: 388-Ball Ball Grid Array (BGA388); ComponentLink1Description: Manufacturer Link; ComponentLink1URL: http://www.latticesemi.com/products/fpga/orca/orca2/index.cfm; ComponentLink2Description: Datasheet; ComponentLink2URL: http://www.latticesemi.com/lit/docs/datasheets/fpga/ds99-094fpga.pdf; ComponentLink3Description: Lattice Login; ComponentLink3URL: http://www.latticesemi.com/account/login.cfm
footprint BGA388 (BGA, 388-Leads, Body 35x35mm, Pitch 1.27mm)
3D model OR2T40A-BGA388 (388-Ball Ball Grid Array (BGA388))
part A pins: AA1 PL26A (io), AA2 PL26C (io), AA3 PL28D (io), AB1 PL27A (io), AB2 PL27C (io), AB3 PL30C (io), AB4 PL28A (io), AC1 PL29A (io), AC2 PL28C (io), AC3 PL30A/A15 (io), AC5 PB4C (io), AC7 PB5C (io), AC9 PB7D (io), AC10 PB11D (io), AC12 PB15B (io), AC14 PB16B (io), AC15 PB20A (io), AC17 PB22A (io), AC19 PB25C (io), AC20 PB26C (io), AC22 PB28D (io), AD2 PL30B (io), AD4 PB3A (io), AD5 PB4D (io), AD6 PB5D/A17 (io), AD7 PB6D (io), AD8 PB8D (io), AD9 PB10D (io), AD10 PB12D (io), AD11 PB14D (io), AD12 PB15D (io), AD13 PB16D (io), AD14 PB17D (io), AD15 PB19A/HDC (io), AD16 PB21A/~{LDC} (io), AD17 PB23A (io), AD18 PB25A/~{INIT} (io), AD20 PB27A (io), AD21 PB28A (io), AD22 PB29D (io), AD23 PB30D (io), AE3 PB1B (io), AE4 PB2D (io), AE5 PB4A (io), AE6 PB5B (io), AE7 PB6B (io), AE8 PB7A (io), AE9 PB9A (io), AE10 PB10A (io), AE11 PB12A (io), AE12 PB13D (io), AE13 PB15A (io), AE14 PB16A (io), AE16 PB18D (io), AE17 PB20D (io), AE18 PB22D (io), AE19 PB24C (io), AE20 PB25B (io), AE21 PB26B (io), AE22 PB27B (io), AE23 PB28B (io), AE24 PB30C (io), AF2 PB1A/A16 (io), AF3 PB2A (io), AF5 PB5A (io), AF6 PB6A (io), AF7 PB6C (io), AF8 PB8A (io), AF9 PB9D (io), AF10 PB11A (io), AF11 PB13A (io), AF12 PB14A (io), AF13 PB15C (io), AF14 PB16C (io), AF15 PB18A (io), AF16 PB19D (io), AF17 PB21D (io), AF18 PB24A (io), AF19 PB24D (io), AF20 PB25D (io), AF21 PB26D (io), AF22 PB27D (io), AF23 PB29A (io), B1 PL1D (io), C1 PL2D (io), C2 PL1A (io), D1 PL3A (io), D2 PL2A (io), D3 PL3D/A0 (io), E2 PL4D (io), E3 PL4A (io), E4 PL4B (io), F1 PL7D (io), F2 PL5C (io), F3 PL6D (io), G1 PL7B (io), G2 PL7C (io), G3 PL8D/A1 (io), G4 PL5B (io), H1 PL9B (io), H2 PL9D (io), H3 PL9A/A2 (io), J1 PL10C (io), J2 PL10D (io), J3 PL10A/A3 (io), J4 PL9C (io), K1 PL11D (io), K2 PL10B (io), K3 PL12A/A4 (io), K4 PL11A (io), L1 PL13D/A5 (io), L2 PL12D (io), L3 PL14A/A6 (io), M1 PL14D (io), M2 PL13A (io), M3 PL15A/A7 (io), M4 PL15C (io), N1 PL15B (io), N2 PL15D (io), N3 PL16A/A8 (io), P1 PL16B (io), P2 PL16D (io), P3 PL17A (io), R1 PL18D (io), R2 PL17D/A9 (io), R3 PL19D (io), R4 PL20D (io), T1 PL19A (io), T2 PL18A/A10 (io), T3 PL21D/A12 (io), U1 PL21C (io), U2 PL20A/A11 (io), U3 PL22D (io), U4 PL21B (io), V1 PL22C (io), V2 PL21A (io), V3 PL23D (io), W1 PL22A (io), W2 PL22B/A13 (io), W3 PL25A/A14 (io), W4 PL24D (io), Y1 PL25D (io), Y2 PL23C (io), Y4 PL26B (io)
part B pins: A3 RD_DATA/TDO (out), A4 PT2D (io), A5 PT3D (io), A6 PT5A/TMS (io), A8 PT7A/TDI (io), A9 PT8A (io), A10 PT10A (io), A11 PT12A (io), A12 PT13D (io), A14 PT16B (io), A15 PT17D (io), A16 PT18D (io), A17 PT20D (io), A18 PT22A (io), A19 PT24B (io), A20 PT25B (io), A21 PT25D/D7 (io), A22 PT26D (io), A23 PT28A/RDY/RCLK (io), A24 PT29B (io), A25 PT30D (io), AA24 PR26C (io), AA25 PR26A (io), AA26 PR25A (io), AB23 PR27A (io), AB24 PR27B (io), AB25 PR28D (io), AB26 PR27D (io), AC24 PR29D (io), AC25 PR29A (io), AC26 PR28A (io), AD1 CCLK (io), AD25 ~{PRGM} (in), AD26 PR30A/M0 (io), AE26 ~{RES}E~{T} (in), AF24 DONE (io), B3 PT1D (io), B4 PT3B (io), B5 PT4A (io), B6 PT5C (io), B7 PT6C (io), B8 PT7D (io), B9 PT9A (io), B10 PT11A/DOUT (io), B11 PT13A/D0/DIN (io), B12 PT14D/D1 (io), B13 PT15D (io), B14 PT16D (io), B15 PT18A (io), B16 PT19D (io), B17 PT21D/D6 (io), B18 PT22D (io), B20 PT25C (io), B21 PT26C (io), B22 PT27D (io), B23 PT29A (io), B24 PT30A (io), C4 PT1A/TCK (io), C5 PT2A (io), C6 PT3C (io), C7 PT4D (io), C8 PT5D (io), C9 PT6D (io), C10 PT8D (io), C11 PT10D (io), C12 PT12D (io), C13 PT14A (io), C14 PT15A/D2 (io), C15 PT16A/D3 (io), C16 PT17A/D4 (io), C17 PT19A/D5 (io), C18 PT21A (io), C19 PT23D (io), C20 PT25A (io), C21 PT26A (io), C22 PT27A (io), C23 PT28D (io), C25 PR1A (io), C26 ~{RD_CFG} (in), D5 PT3A (io), D7 PT5B (io), D8 PT6B (io), D10 PT9D (io), D12 PT11D (io), D13 PT15C (io), D15 PT16C (io), D17 PT20A (io), D18 PT24C (io), D20 PT26B (io), D22 PT27C (io), D24 PR1D (io), D25 PR3A (io), D26 PR2A (io), E23 PR3D (io), E24 PR2D (io), E25 PR4A/~{WR} (io), E26 PR4B (io), F24 PR4D (io), F26 PR5C (io), G23 PR5B (io), G24 PR5D (io), G25 PR8A/~{RD} (io), G26 PR7C (io), H23 PR7A (io), H24 PR6A (io), H25 PR9B (io), H26 PR9C (io), J24 PR9D (io), J25 PR10C (io), J26 PR9A (io), K23 PR10B (io), K24 PR10D (io), K25 PR11A (io), K26 PR10A/~{CS0} (io), L24 PR11D (io), L25 PR13A (io), L26 PR12A/CS1 (io), M23 PR12D (io), M24 PR13D (io), M25 PR15D (io), M26 PR14D (io), N23 PR15A (io), N25 PR16D (io), N26 PR15B (io), P24 PR15C (io), P25 PR17D (io), P26 PR16B (io), R23 PR16A (io), R24 PR16C (io), R25 PR18A/M3 (io), R26 PR18D (io), T24 PR17A (io), T25 PR20D (io), T26 PR19D (io), U23 PR20A/M2 (io), U24 PR19A (io), U25 PR21B (io), U26 PR21D (io), V23 PR22A (io), V24 PR21C (io), V26 PR21A (io), W24 PR22C (io), W25 PR23D/M1 (io), W26 PR22B (io), Y23 PR26B (io), Y24 PR24D (io), Y25 PR24A (io), Y26 PR24B (io)
part C pins: A1 VSS (power), A2 VSS (power), A7 VDD5 (power), A13 VDD5 (power), A26 VSS (power), AA4 VDD (power), AA23 VDD (power), AC4 VSS (power), AC6 VDD (power), AC8 VSS (power), AC11 VDD (power), AC13 VSS (power), AC16 VDD (power), AC18 VSS (power), AC21 VDD (power), AC23 VSS (power), AD3 VSS (power), AD19 VDD5 (power), AD24 VSS (power), AE1 VSS (power), AE2 VSS (power), AE15 VDD5 (power), AE25 VSS (power), AF1 VSS (power), AF4 VDD5 (power), AF25 VSS (power), AF26 VSS (power), B2 VSS (power), B19 VDD5 (power), B25 VSS (power), B26 VSS (power), C3 VSS (power), C24 VSS (power), D4 VSS (power), D6 VDD (power), D9 VSS (power), D11 VDD (power), D14 VSS (power), D16 VDD (power), D19 VSS (power), D21 VDD (power), D23 VSS (power), E1 VDD5 (power), F4 VDD (power), F23 VDD (power), F25 VDD5 (power), H4 VSS (power), J23 VSS (power), L4 VDD (power), L11 VSS/ETC (power), L12 VSS/ETC (power), L13 VSS/ETC (power), L14 VSS/ETC (power), L15 VSS/ETC (power), L16 VSS/ETC (power), L23 VDD (power), M11 VSS/ETC (power), M12 VSS/ETC (power), M13 VSS/ETC (power), M14 VSS/ETC (power), M15 VSS/ETC (power), M16 VSS/ETC (power), N4 VSS (power), N11 VSS/ETC (power), N12 VSS/ETC (power), N13 VSS/ETC (power), N14 VSS/ETC (power), N15 VSS/ETC (power), N16 VSS/ETC (power), N24 VDD5 (power), P4 VDD5 (power), P11 VSS/ETC (power), P12 VSS/ETC (power), P13 VSS/ETC (power), P14 VSS/ETC (power), P15 VSS/ETC (power), P16 VSS/ETC (power), P23 VSS (power), R11 VSS/ETC (power), R12 VSS/ETC (power), R13 VSS/ETC (power), R14 VSS/ETC (power), R15 VSS/ETC (power), R16 VSS/ETC (power), T4 VDD (power), T11 VSS/ETC (power), T12 VSS/ETC (power), T13 VSS/ETC (power), T14 VSS/ETC (power), T15 VSS/ETC (power), T16 VSS/ETC (power), T23 VDD (power), V4 VSS (power), V25 VDD5 (power), W23 VSS (power), Y3 VDD5 (power)

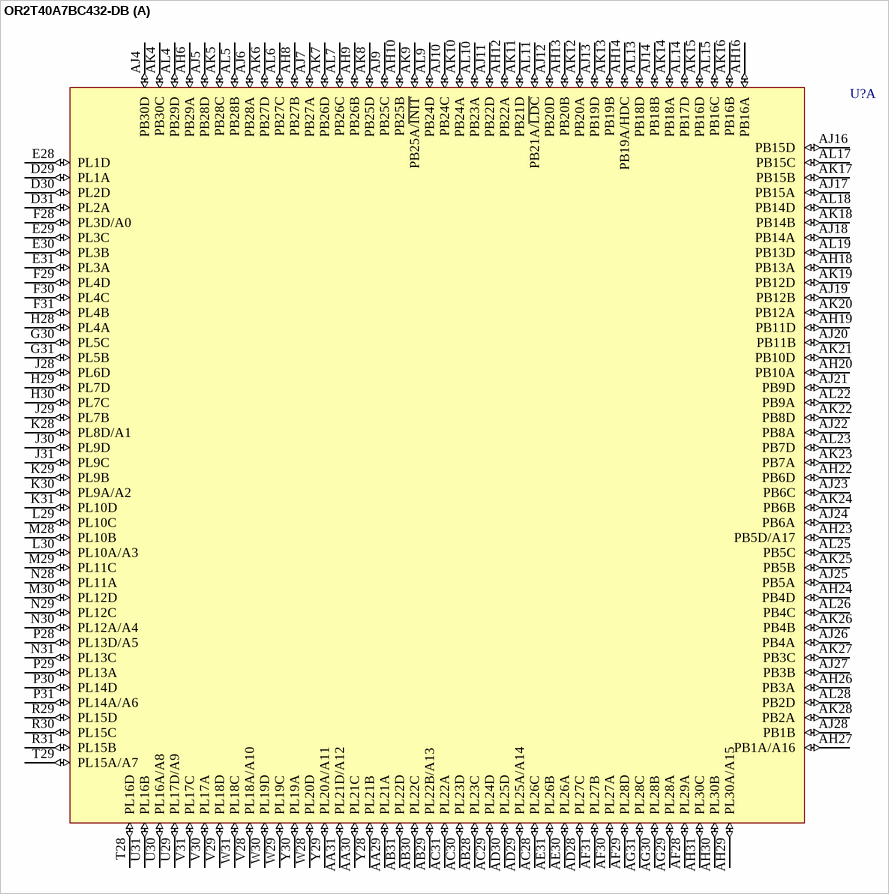
[diagram p171: symbol OR2T40A7BC432-DB]

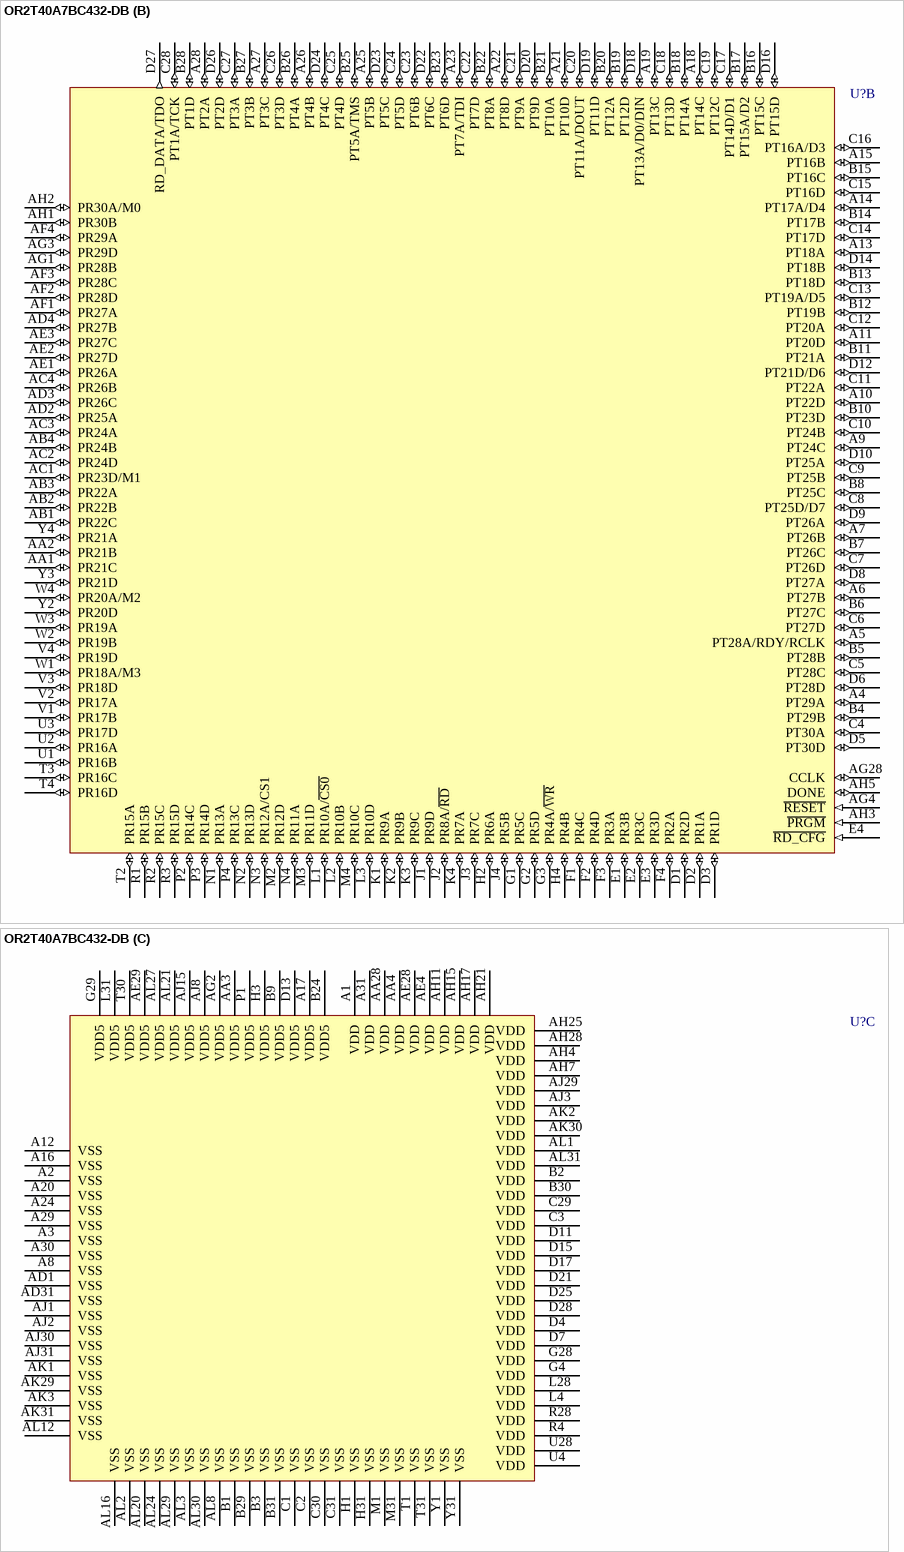
[diagram p172: symbol OR2T40A7BC432-DB]

## OR2T40A7BC432-DB
designator U?
ORCA Series 2C FPGA: 3.3 V, Commercial Grade, 480 User I/Os.; Published: 21-May-2003; LatestRevisionDate: 13-Apr-2006; LatestRevisionNote: IPC-7351 Footprint Added.; DatasheetVersion: Jan-2003; PackageVersion: pkg_32, Aug-2005; PackageReference: SBGA432; Publisher: Altium Limited; PackageDescription: 432-Ball Super Ball Grid Array (SBGA432); ComponentLink1Description: Manufacturer Link; ComponentLink1URL: http://www.latticesemi.com/products/fpga/orca/orca2/index.cfm; ComponentLink2Description: Datasheet; ComponentLink2URL: http://www.latticesemi.com/lit/docs/datasheets/fpga/ds99-094fpga.pdf; ComponentLink3Description: Lattice Login; ComponentLink3URL: http://www.latticesemi.com/account/login.cfm
footprint SBGA432 (BGA, 432-Leads, Body 40x40mm, Pitch 1.27mm)
3D model OR2T40A-SBGA432 (432-Ball Super Ball Grid Array (SBGA432))
part A pins: AA29 PL21A (io), AA30 PL21C (io), AA31 PL21D/A12 (io), AB28 PL23C (io), AB29 PL22B/A13 (io), AB30 PL22C (io), AB31 PL22D (io), AC28 PL26C (io), AC29 PL24D (io), AC30 PL23D (io), AC31 PL22A (io), AD28 PL27C (io), AD29 PL25A/A14 (io), AD30 PL25D (io), AE30 PL26A (io), AE31 PL26B (io), AF28 PL29A (io), AF29 PL28D (io), AF30 PL27A (io), AF31 PL27B (io), AG29 PL28A (io), AG30 PL28B (io), AG31 PL28C (io), AH6 PB29A (io), AH8 PB27B (io), AH9 PB26B (io), AH10 PB25B (io), AH12 PB22A (io), AH13 PB20B (io), AH14 PB19A/HDC (io), AH16 PB16A (io), AH18 PB13A (io), AH19 PB11D (io), AH20 PB10A (io), AH22 PB6D (io), AH23 PB5D/A17 (io), AH24 PB4D (io), AH26 PB3A (io), AH27 PB1A/A16 (io), AH29 PL30A/A15 (io), AH30 PL30B (io), AH31 PL30C (io), AJ4 PB30D (io), AJ5 PB28D (io), AJ6 PB28A (io), AJ7 PB27A (io), AJ9 PB25C (io), AJ10 PB24C (io), AJ11 PB22D (io), AJ12 PB20D (io), AJ13 PB19D (io), AJ14 PB18B (io), AJ16 PB15D (io), AJ17 PB15A (io), AJ18 PB14A (io), AJ19 PB12B (io), AJ20 PB11B (io), AJ21 PB9D (io), AJ22 PB8A (io), AJ23 PB6C (io), AJ24 PB6A (io), AJ25 PB5A (io), AJ26 PB4A (io), AJ27 PB3B (io), AJ28 PB1B (io), AK4 PB30C (io), AK5 PB28C (io), AK6 PB27D (io), AK7 PB26D (io), AK8 PB25D (io), AK9 PB25A/~{INIT} (io), AK10 PB24A (io), AK11 PB21D (io), AK12 PB20A (io), AK13 PB19B (io), AK14 PB18A (io), AK15 PB16D (io), AK16 PB16B (io), AK17 PB15B (io), AK18 PB14B (io), AK19 PB12D (io), AK20 PB12A (io), AK21 PB10D (io), AK22 PB8D (io), AK23 PB7A (io), AK24 PB6B (io), AK25 PB5B (io), AK26 PB4B (io), AK27 PB3C (io), AK28 PB2A (io), AL4 PB29D (io), AL5 PB28B (io), AL6 PB27C (io), AL7 PB26C (io), AL9 PB24D (io), AL10 PB23A (io), AL11 PB21A/~{LDC} (io), AL13 PB18D (io), AL14 PB17D (io), AL15 PB16C (io), AL17 PB15C (io), AL18 PB14D (io), AL19 PB13D (io), AL22 PB9A (io), AL23 PB7D (io), AL25 PB5C (io), AL26 PB4C (io), AL28 PB2D (io), D29 PL1A (io), D30 PL2D (io), D31 PL2A (io), E28 PL1D (io), E29 PL3C (io), E30 PL3B (io), E31 PL3A (io), F28 PL3D/A0 (io), F29 PL4D (io), F30 PL4C (io), F31 PL4B (io), G30 PL5C (io), G31 PL5B (io), H28 PL4A (io), H29 PL7D (io), H30 PL7C (io), J28 PL6D (io), J29 PL7B (io), J30 PL9D (io), J31 PL9C (io), K28 PL8D/A1 (io), K29 PL9B (io), K30 PL9A/A2 (io), K31 PL10D (io), L29 PL10C (io), L30 PL10A/A3 (io), M28 PL10B (io), M29 PL11C (io), M30 PL12D (io), N28 PL11A (io), N29 PL12C (io), N30 PL12A/A4 (io), N31 PL13C (io), P28 PL13D/A5 (io), P29 PL13A (io), P30 PL14D (io), P31 PL14A/A6 (io), R29 PL15D (io), R30 PL15C (io), R31 PL15B (io), T28 PL16D (io), T29 PL15A/A7 (io), U29 PL17D/A9 (io), U30 PL16A/A8 (io), U31 PL16B (io), V28 PL18A/A10 (io), V29 PL18D (io), V30 PL17A (io), V31 PL17C (io), W28 PL20D (io), W29 PL19C (io), W30 PL19D (io), W31 PL18C (io), Y28 PL21B (io), Y29 PL20A/A11 (io), Y30 PL19A (io)
part B pins: A4 PT29A (io), A5 PT28A/RDY/RCLK (io), A6 PT27B (io), A7 PT26B (io), A9 PT24C (io), A10 PT22D (io), A11 PT20D (io), A13 PT18A (io), A14 PT17A/D4 (io), A15 PT16B (io), A18 PT14C (io), A19 PT13C (io), A21 PT10D (io), A22 PT8D (io), A23 PT7A/TDI (io), A25 PT5B (io), A26 PT4B (io), A27 PT3C (io), A28 PT2A (io), AA1 PR21C (io), AA2 PR21B (io), AB1 PR22C (io), AB2 PR22B (io), AB3 PR22A (io), AB4 PR24B (io), AC1 PR23D/M1 (io), AC2 PR24D (io), AC3 PR24A (io), AC4 PR26B (io), AD2 PR25A (io), AD3 PR26C (io), AD4 PR27B (io), AE1 PR26A (io), AE2 PR27D (io), AE3 PR27C (io), AF1 PR27A (io), AF2 PR28D (io), AF3 PR28C (io), AF4 PR29A (io), AG1 PR28B (io), AG3 PR29D (io), AG4 ~{RESET} (in), AG28 CCLK (io), AH1 PR30B (io), AH2 PR30A/M0 (io), AH3 ~{PRGM} (in), AH5 DONE (io), B4 PT29B (io), B5 PT28B (io), B6 PT27C (io), B7 PT26C (io), B8 PT25C (io), B10 PT23D (io), B11 PT21A (io), B12 PT19B (io), B13 PT18D (io), B14 PT17B (io), B15 PT16C (io), B16 PT15C (io), B17 PT15A/D2 (io), B18 PT14A (io), B19 PT12D (io), B20 PT12A (io), B21 PT10A (io), B22 PT8A (io), B23 PT6D (io), B25 PT5A/TMS (io), B26 PT4A (io), B27 PT3B (io), B28 PT1D (io), C4 PT30A (io), C5 PT28C (io), C6 PT27D (io), C7 PT26D (io), C8 PT25D/D7 (io), C9 PT25B (io), C10 PT24B (io), C11 PT22A (io), C12 PT20A (io), C13 PT19A/D5 (io), C14 PT17D (io), C15 PT16D (io), C16 PT16A/D3 (io), C17 PT14D/D1 (io), C18 PT13D (io), C19 PT12C (io), C20 PT11A/DOUT (io), C21 PT9A (io), C22 PT7D (io), C23 PT6B (io), C24 PT5D (io), C25 PT4D (io), C26 PT3D (io), C27 PT3A (io), C28 PT1A/TCK (io), D1 PR2D (io), D2 PR1A (io), D3 PR1D (io), D5 PT30D (io), D6 PT28D (io), D8 PT27A (io), D9 PT26A (io), D10 PT25A (io), D12 PT21D/D6 (io), D14 PT18B (io), D16 PT15D (io), D18 PT13A/D0/DIN (io), D19 PT11D (io), D20 PT9D (io), D22 PT6C (io), D23 PT5C (io), D24 PT4C (io), D26 PT2D (io), D27 RD_DATA/TDO (out), E1 PR3B (io), E2 PR3C (io), E3 PR3D (io), E4 ~{RD_CFG} (in), F1 PR4C (io), F2 PR4D (io), F3 PR3A (io), F4 PR2A (io), G1 PR5C (io), G2 PR5D (io), G3 PR4A/~{WR} (io), H2 PR6A (io), H4 PR4B (io), J1 PR9D (io), J2 PR8A/~{RD} (io), J3 PR7C (io), J4 PR5B (io), K1 PR9A (io), K2 PR9B (io), K3 PR9C (io), K4 PR7A (io), L1 PR10A/~{CS0} (io), L2 PR10B (io), L3 PR10D (io), M2 PR12D (io), M3 PR11D (io), M4 PR10C (io), N1 PR13A (io), N2 PR13D (io), N3 PR12A/CS1 (io), N4 PR11A (io), P2 PR14C (io), P3 PR14D (io), P4 PR13C (io), R1 PR15B (io), R2 PR15C (io), R3 PR15D (io), T2 PR15A (io), T3 PR16C (io), T4 PR16D (io), U1 PR16B (io), U2 PR16A (io), U3 PR17D (io), V1 PR17B (io), V2 PR17A (io), V3 PR18D (io), V4 PR19D (io), W1 PR18A/M3 (io), W2 PR19B (io), W3 PR19A (io), W4 PR20A/M2 (io), Y2 PR20D (io), Y3 PR21D (io), Y4 PR21A (io)
part C pins: A1 VDD (power), A2 VSS (power), A3 VSS (power), A8 VSS (power), A12 VSS (power), A16 VSS (power), A17 VDD5 (power), A20 VSS (power), A24 VSS (power), A29 VSS (power), A30 VSS (power), A31 VDD (power), AA3 VDD5 (power), AA4 VDD (power), AA28 VDD (power), AD1 VSS (power), AD31 VSS (power), AE4 VDD (power), AE28 VDD (power), AE29 VDD5 (power), AG2 VDD5 (power), AH4 VDD (power), AH7 VDD (power), AH11 VDD (power), AH15 VDD (power), AH17 VDD (power), AH21 VDD (power), AH25 VDD (power), AH28 VDD (power), AJ1 VSS (power), AJ2 VSS (power), AJ3 VDD (power), AJ8 VDD5 (power), AJ15 VDD5 (power), AJ29 VDD (power), AJ30 VSS (power), AJ31 VSS (power), AK1 VSS (power), AK2 VDD (power), AK3 VSS (power), AK29 VSS (power), AK30 VDD (power), AK31 VSS (power), AL1 VDD (power), AL2 VSS (power), AL3 VSS (power), AL8 VSS (power), AL12 VSS (power), AL16 VSS (power), AL20 VSS (power), AL21 VDD5 (power), AL24 VSS (power), AL27 VDD5 (power), AL29 VSS (power), AL30 VSS (power), AL31 VDD (power), B1 VSS (power), B2 VDD (power), B3 VSS (power), B9 VDD5 (power), B24 VDD5 (power), B29 VSS (power), B30 VDD (power), B31 VSS (power), C1 VSS (power), C2 VSS (power), C3 VDD (power), C29 VDD (power), C30 VSS (power), C31 VSS (power), D4 VDD (power), D7 VDD (power), D11 VDD (power), D13 VDD5 (power), D15 VDD (power), D17 VDD (power), D21 VDD (power), D25 VDD (power), D28 VDD (power), G4 VDD (power), G28 VDD (power), G29 VDD5 (power), H1 VSS (power), H3 VDD5 (power), H31 VSS (power), L4 VDD (power), L28 VDD (power), L31 VDD5 (power), M1 VSS (power), M31 VSS (power), P1 VDD5 (power), R4 VDD (power), R28 VDD (power), T1 VSS (power), T30 VDD5 (power), T31 VSS (power), U4 VDD (power), U28 VDD (power), Y1 VSS (power), Y31 VSS (power)

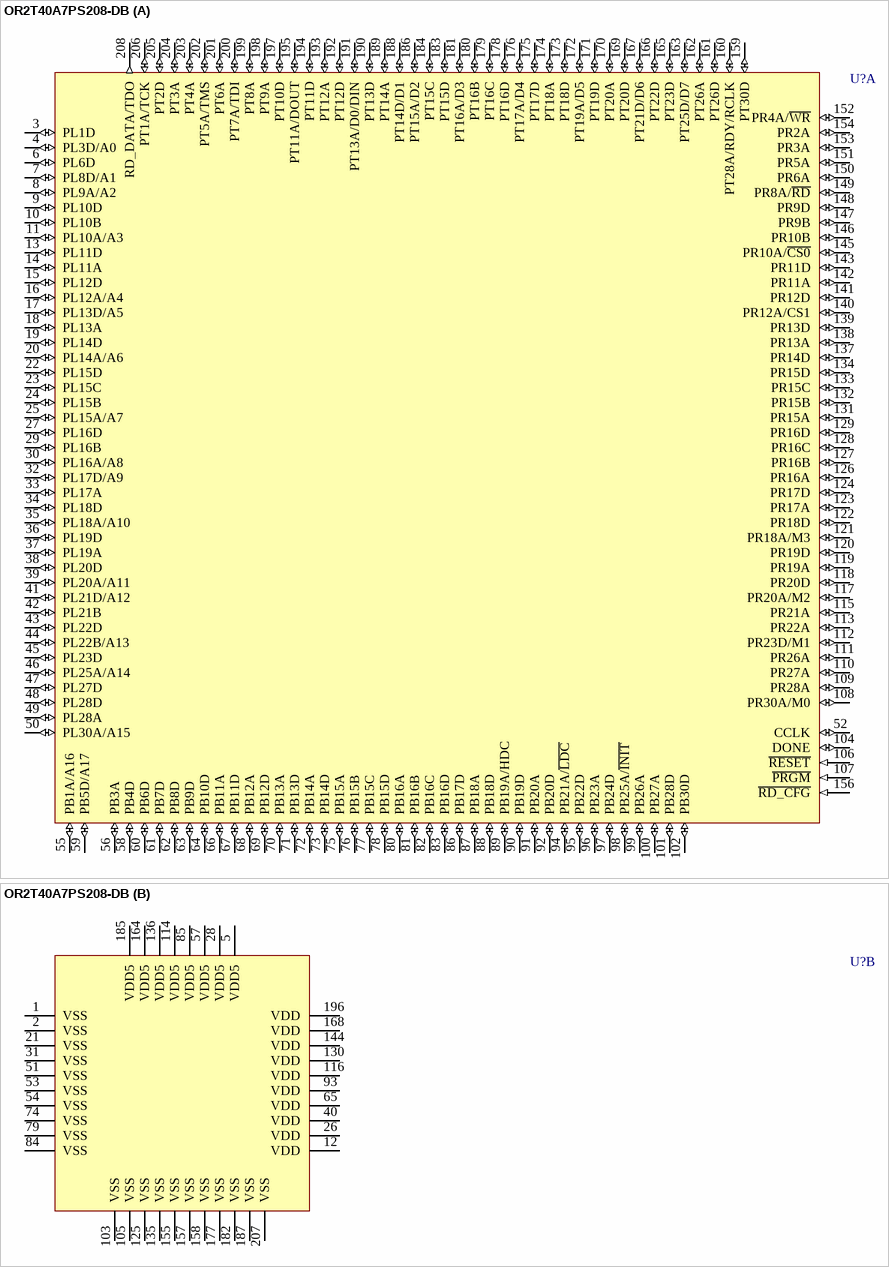
[diagram p173: symbol OR2T40A7PS208-DB]

## OR2T40A7PS208-DB
designator U?
ORCA Series 2C FPGA: 3.3 V, Commercial Grade, 480 User I/Os.; Published: 21-May-2003; LatestRevisionDate: 13-Apr-2006; LatestRevisionNote: IPC-7351 Footprint Added.; DatasheetVersion: Jan-2003; PackageVersion: pkg_32, Aug-2005; PackageReference: PQFP208; Publisher: Altium Limited; PackageDescription: 208-Pin Plastic Quad Flat Pack (PQFP208); Code_JEDEC: MO-143-FAI; ComponentLink1Description: Manufacturer Link; ComponentLink1URL: http://www.latticesemi.com/products/fpga/orca/orca2/index.cfm; ComponentLink2Description: Datasheet; ComponentLink2URL: http://www.latticesemi.com/lit/docs/datasheets/fpga/ds99-094fpga.pdf; ComponentLink3Description: Lattice Login; ComponentLink3URL: http://www.latticesemi.com/account/login.cfm
footprint PQFP208_N (Shrink QFP, 208-Leads, Body 28x28mm, Pitch 0.5mm, IPC Medium Density)
footprint PQFP208_L (Shrink QFP, 208-Leads, Body 28x28mm, Pitch 0.5mm, IPC High Density)
footprint PQFP208_M (Shrink QFP, 208-Leads, Body 28x28mm, Pitch 0.5mm, IPC Low Density)
3D model OR2T40A-PQFP208 (208-Pin Plastic Quad Flat Pack (PQFP208))
part A pins: 3 PL1D (io), 4 PL3D/A0 (io), 6 PL6D (io), 7 PL8D/A1 (io), 8 PL9A/A2 (io), 9 PL10D (io), 10 PL10B (io), 11 PL10A/A3 (io), 13 PL11D (io), 14 PL11A (io), 15 PL12D (io), 16 PL12A/A4 (io), 17 PL13D/A5 (io), 18 PL13A (io), 19 PL14D (io), 20 PL14A/A6 (io), 22 PL15D (io), 23 PL15C (io), 24 PL15B (io), 25 PL15A/A7 (io), 27 PL16D (io), 29 PL16B (io), 30 PL16A/A8 (io), 32 PL17D/A9 (io), 33 PL17A (io), 34 PL18D (io), 35 PL18A/A10 (io), 36 PL19D (io), 37 PL19A (io), 38 PL20D (io), 39 PL20A/A11 (io), 41 PL21D/A12 (io), 42 PL21B (io), 43 PL22D (io), 44 PL22B/A13 (io), 45 PL23D (io), 46 PL25A/A14 (io), 47 PL27D (io), 48 PL28D (io), 49 PL28A (io), 50 PL30A/A15 (io), 52 CCLK (io), 55 PB1A/A16 (io), 56 PB3A (io), 58 PB4D (io), 59 PB5D/A17 (io), 60 PB6D (io), 61 PB7D (io), 62 PB8D (io), 63 PB9D (io), 64 PB10D (io), 66 PB11A (io), 67 PB11D (io), 68 PB12A (io), 69 PB12D (io), 70 PB13A (io), 71 PB13D (io), 72 PB14A (io), 73 PB14D (io), 75 PB15A (io), 76 PB15B (io), 77 PB15C (io), 78 PB15D (io), 80 PB16A (io), 81 PB16B (io), 82 PB16C (io), 83 PB16D (io), 86 PB17D (io), 87 PB18A (io), 88 PB18D (io), 89 PB19A/HDC (io), 90 PB19D (io), 91 PB20A (io), 92 PB20D (io), 94 PB21A/~{LDC} (io), 95 PB22D (io), 96 PB23A (io), 97 PB24D (io), 98 PB25A/~{INIT} (io), 99 PB26A (io), 100 PB27A (io), 101 PB28D (io), 102 PB30D (io), 104 DONE (io), 106 ~{RESET} (in), 107 ~{PRGM} (in), 108 PR30A/M0 (io), 109 PR28A (io), 110 PR27A (io), 111 PR26A (io), 112 PR23D/M1 (io), 113 PR22A (io), 115 PR21A (io), 117 PR20A/M2 (io), 118 PR20D (io), 119 PR19A (io), 120 PR19D (io), 121 PR18A/M3 (io), 122 PR18D (io), 123 PR17A (io), 124 PR17D (io), 126 PR16A (io), 127 PR16B (io), 128 PR16C (io), 129 PR16D (io), 131 PR15A (io), 132 PR15B (io), 133 PR15C (io), 134 PR15D (io), 137 PR14D (io), 138 PR13A (io), 139 PR13D (io), 140 PR12A/CS1 (io), 141 PR12D (io), 142 PR11A (io), 143 PR11D (io), 145 PR10A/~{CS0} (io), 146 PR10B (io), 147 PR9B (io), 148 PR9D (io), 149 PR8A/~{RD} (io), 150 PR6A (io), 151 PR5A (io), 152 PR4A/~{WR} (io), 153 PR3A (io), 154 PR2A (io), 156 ~{RD_CFG} (in), 159 PT30D (io), 160 PT28A/RDY/RCLK (io), 161 PT26D (io), 162 PT26A (io), 163 PT25D/D7 (io), 165 PT23D (io), 166 PT22D (io), 167 PT21D/D6 (io), 169 PT20D (io), 170 PT20A (io), 171 PT19D (io), 172 PT19A/D5 (io), 173 PT18D (io), 174 PT18A (io), 175 PT17D (io), 176 PT17A/D4 (io), 178 PT16D (io), 179 PT16C (io), 180 PT16B (io), 181 PT16A/D3 (io), 183 PT15D (io), 184 PT15C (io), 186 PT15A/D2 (io), 188 PT14D/D1 (io), 189 PT14A (io), 190 PT13D (io), 191 PT13A/D0/DIN (io), 192 PT12D (io), 193 PT12A (io), 194 PT11D (io), 195 PT11A/DOUT (io), 197 PT10D (io), 198 PT9A (io), 199 PT8A (io), 200 PT7A/TDI (io), 201 PT6A (io), 202 PT5A/TMS (io), 203 PT4A (io), 204 PT3A (io), 205 PT2D (io), 206 PT1A/TCK (io), 208 RD_DATA/TDO (out)
part B pins: 1 VSS (power), 2 VSS (power), 5 VDD5 (power), 12 VDD (power), 21 VSS (power), 26 VDD (power), 28 VDD5 (power), 31 VSS (power), 40 VDD (power), 51 VSS (power), 53 VSS (power), 54 VSS (power), 57 VDD5 (power), 65 VDD (power), 74 VSS (power), 79 VSS (power), 84 VSS (power), 85 VDD5 (power), 93 VDD (power), 103 VSS (power), 105 VSS (power), 114 VDD5 (power), 116 VDD (power), 125 VSS (power), 130 VDD (power), 135 VSS (power), 136 VDD5 (power), 144 VDD (power), 155 VSS (power), 157 VSS (power), 158 VSS (power), 164 VDD5 (power), 168 VDD (power), 177 VSS (power), 182 VSS (power), 185 VDD5 (power), 187 VSS (power), 196 VDD (power), 207 VSS (power)

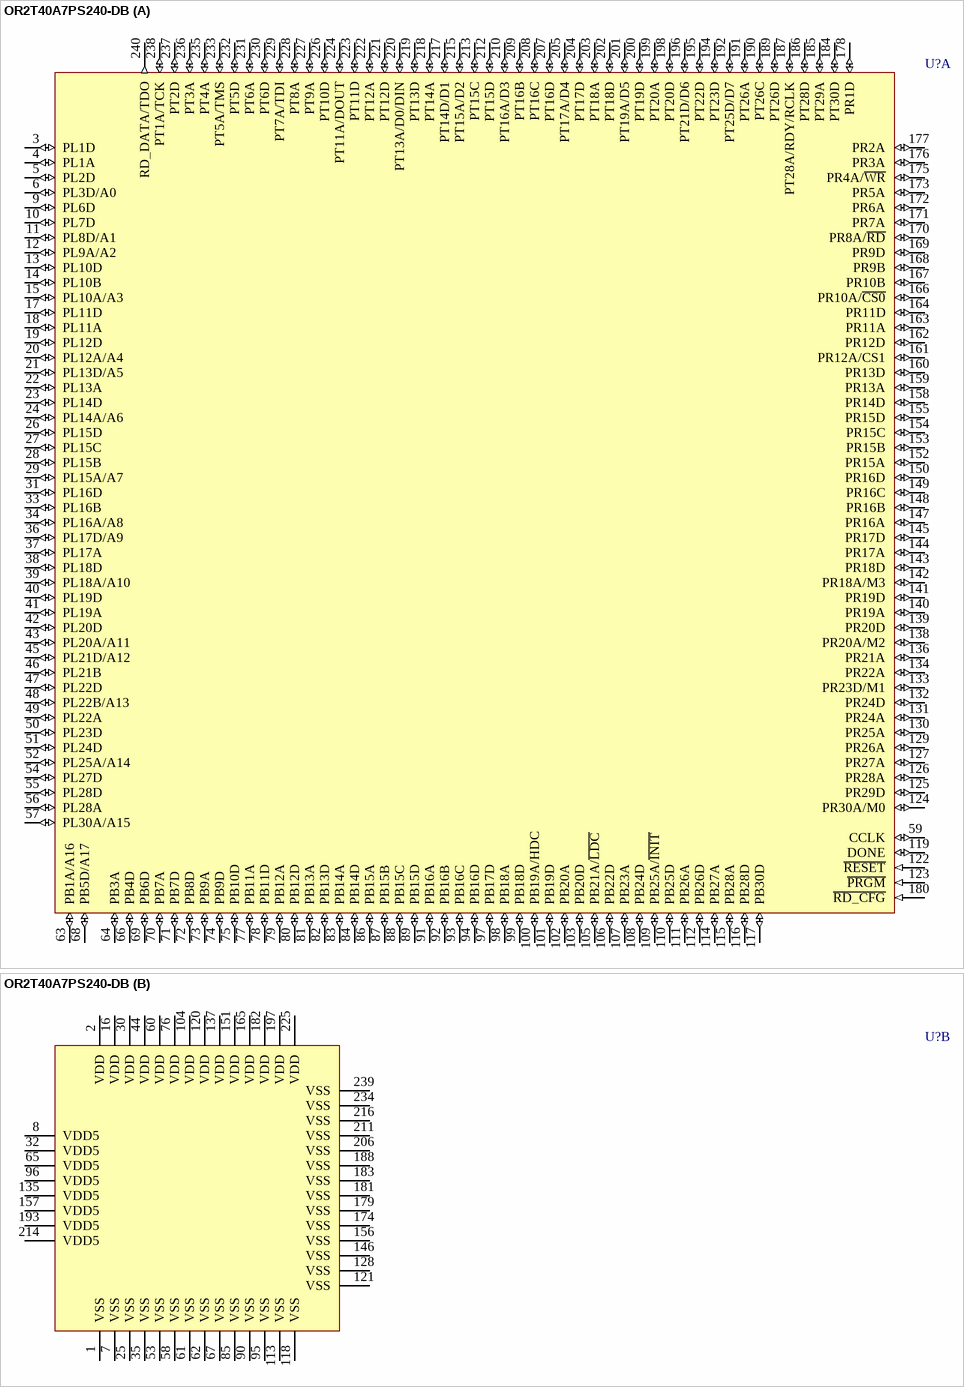
[diagram p174: symbol OR2T40A7PS240-DB]